# Altium schematic symbol library OpAmp比较器.SchLib: 515 symbols (part 1 of 3)
Pins are listed as number, name and electrical type; pins without a type are passive.

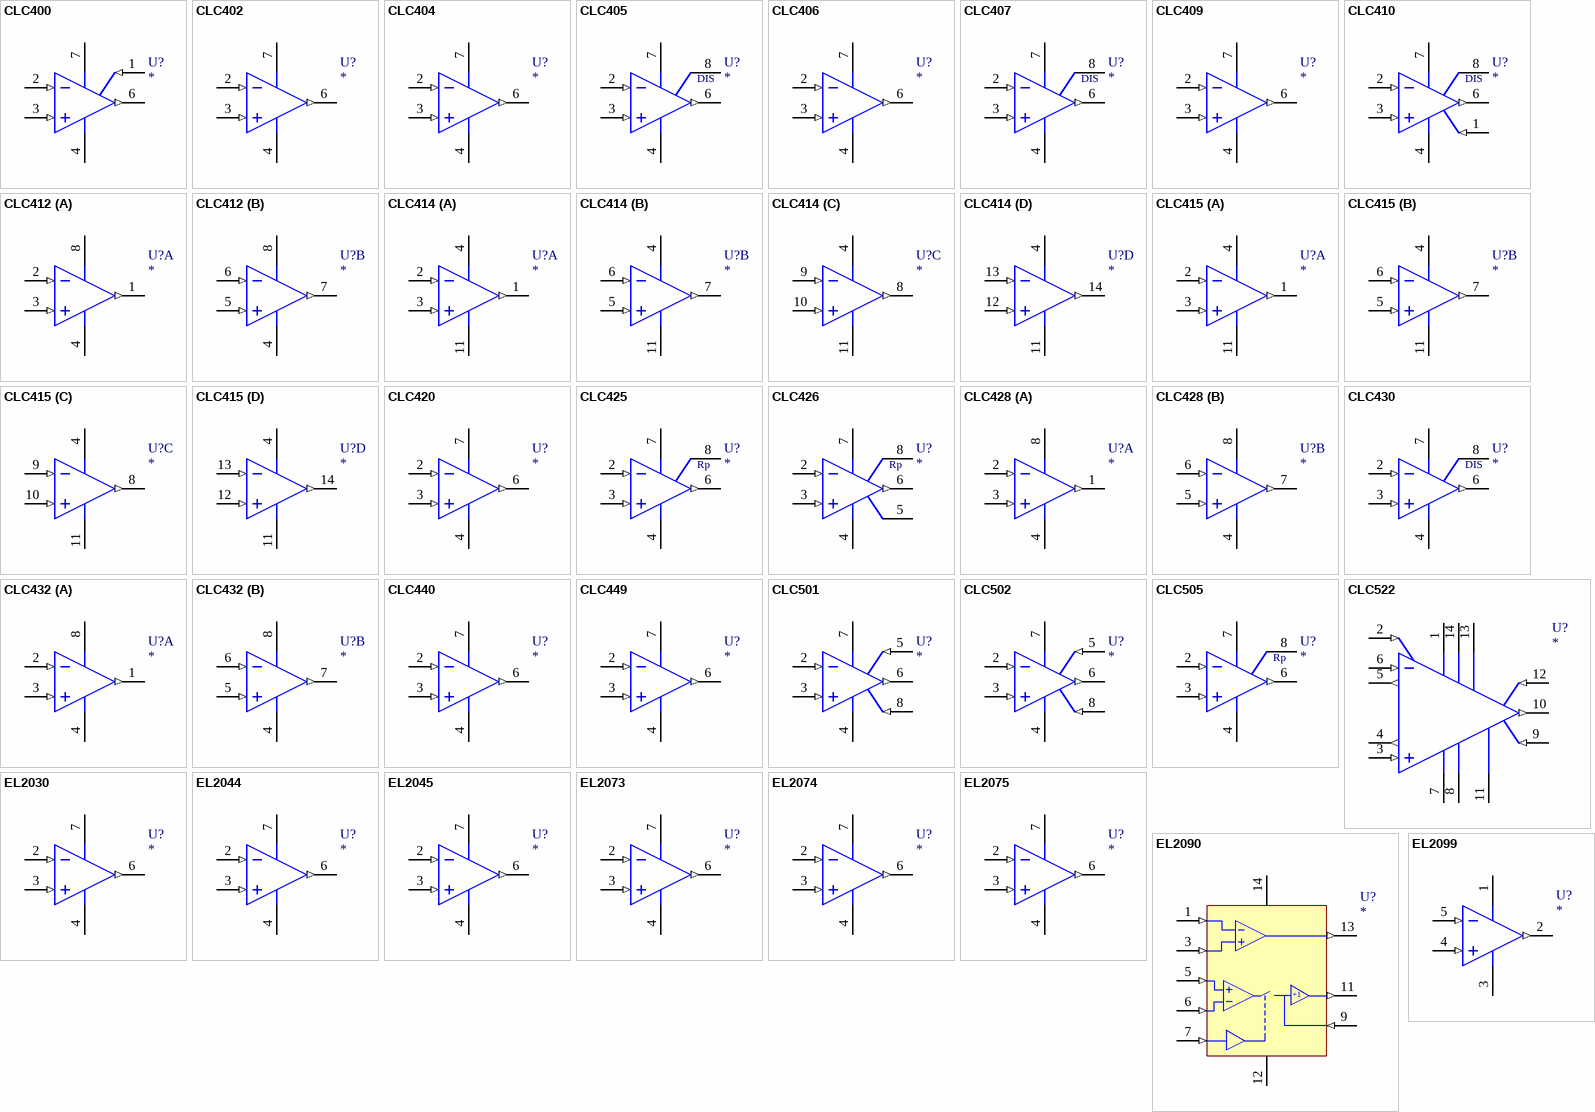
[diagram p0: symbols CLC400 to EL2099]

## CLC400
designator U?
Fast Settling, Wideband Low-Gain Monolithic Op Amp; Text Field6: Pins 5 and 8 are not connected; 技术支持，联系售后: 封装库来自淘宝卖家 ID：黄晶宝石; 唯一出售店铺网址: https://shop463601444.taobao.com
footprint DIP-8
simulation model CLC400 (SUBCKT)
pins: 1 OS ADJ (in), 2 IN- (in), 3 IN+ (in), 4 VEE (power), 6 OUT (out), 7 VCC (power)

## CLC402
designator U?
Low-Gain Op Amp with Fast 14-Bit Settling; Text Field6: Pins 1, 5, and 8 are not connected
footprint DIP-8
simulation model CLC402 (SUBCKT)
pins: 2 IN- (in), 3 IN+ (in), 4 VEE (power), 6 OUT (out), 7 VCC (power)

## CLC404
designator U?
Wideband, High-Slew Rate, Monolithic Op Amp; Text Field6: Pins 1, 5, and 8 are not connected
footprint DIP-8
simulation model CLC404 (SUBCKT)
pins: 2 IN- (in), 3 IN+ (in), 4 VEE (power), 6 OUT (out), 7 VCC (power)

## CLC405
designator U?
Low-Cost, Low Power, 110MHz Op Amp with Disable; Text Field6: Pins 1 and 5 are not connected
footprint DIP-8
simulation model CLC405 (SUBCKT)
pins: 2 IN- (in), 3 IN+ (in), 4 VEE (power), 6 OUT (out), 7 VCC (power), 8 ~{DIS}
text: DIS

## CLC406
designator U?
Wideband, Low Power Monolithic Op Amp; Text Field6: Pins 1, 5, and 8 are not connected
footprint DIP-8
simulation model CLC406 (SUBCKT)
pins: 2 IN- (in), 3 IN+ (in), 4 VEE (power), 6 OUT (out), 7 VCC (power)

## CLC407
designator U?
Low-Cost, Low-Power Programmable Gain Buffer with Disable; Text Field6: Pins 1 and 8 are not connected
footprint DIP-8
simulation model CLC407 (SUBCKT)
pins: 2 IN- (in), 3 IN+ (in), 4 VEE (power), 6 OUT (out), 7 VCC (power), 8 ~{DIS}
text: DIS

## CLC409
designator U?
Very Wideband, Low Distortion Monolithic Op Amp; Text Field6: Pins 1, 5, and 8 are not connected
footprint DIP-8
simulation model CLC409 (SUBCKT)
pins: 2 IN- (in), 3 IN+ (in), 4 VEE (power), 6 OUT (out), 7 VCC (power)

## CLC410
designator U?
Fast Settling, Video Op Amp with Disable; Text Field6: Pin 5 is not connected
footprint DIP-8
simulation model CLC410 (SUBCKT)
pins: 1 OS ADJ (in), 2 IN- (in), 3 IN+ (in), 4 VEE (power), 6 OUT (out), 7 VCC (power), 8 ~{DIS}
text: DIS

## CLC412
designator U?
Dual Wideband Video Op Amp
footprint DIP-8
simulation model CLC412 (SUBCKT)
part A pins: 1 OUT (out), 2 IN- (in), 3 IN+ (in), 4 VEE (power), 8 VCC (power)
part B pins: 4 VEE (power), 5 IN+ (in), 6 IN- (in), 7 OUT (out), 8 VCC (power)

## CLC414
designator U?
Quad, Low-Power Monolithic Op Amp
footprint DIP-14
simulation model CLC414 (SUBCKT)
part A pins: 1 OUT (out), 2 IN- (in), 3 IN+ (in), 4 VCC (power), 11 VEE (power)
part B pins: 4 VCC (power), 5 IN+ (in), 6 IN- (in), 7 OUT (out), 11 VEE (power)
part C pins: 4 VCC (power), 8 OUT (out), 9 IN- (in), 10 IN+ (in), 11 VEE (power)
part D pins: 4 VCC (power), 11 VEE (power), 12 IN+ (in), 13 IN- (in), 14 OUT (out)

## CLC415
designator U?
Quad, Wideband Monolithic Op Amp
footprint DIP-14
simulation model CLC415 (SUBCKT)
part A pins: 1 OUT (out), 2 IN- (in), 3 IN+ (in), 4 VCC (power), 11 VEE (power)
part B pins: 4 VCC (power), 5 IN+ (in), 6 IN- (in), 7 OUT (out), 11 VEE (power)
part C pins: 4 VCC (power), 8 OUT (out), 9 IN- (in), 10 IN+ (in), 11 VEE (power)
part D pins: 4 VCC (power), 11 VEE (power), 12 IN+ (in), 13 IN- (in), 14 OUT (out)

## CLC420
designator U?
High-Speed, Voltage Feedback Op Amp; Text Field6: Pins 1, 5 and 8 are not connected
footprint DIP-8
simulation model CLC420 (SUBCKT)
pins: 2 IN- (in), 3 IN+ (in), 4 VEE (power), 6 OUT (out), 7 VCC (power)

## CLC425
designator U?
Ultra Low Noise Wideband Op Amp; Text Field6: Pins 1 and 5 are not connected
footprint DIP-8
simulation model CLC425 (SUBCKT)
pins: 2 IN- (in), 3 IN+ (in), 4 VEE (power), 6 OUT (out), 7 VCC (power), 8 Rp

## CLC426
designator U?
Wideband, Low-Noise, Voltage Feedback Op Amp; Text Field6: Pin 1 is not connected
footprint DIP-8
simulation model CLC426 (SUBCKT)
pins: 2 IN- (in), 3 IN+ (in), 4 VEE (power), 5 COMP, 6 OUT (out), 7 VCC (power), 8 Rp

## CLC428
designator U?
Dual Wideband, Low-Noise, Voltage Feedback Op Amp
footprint DIP-8
simulation model CLC428 (SUBCKT)
part A pins: 1 OUT (out), 2 IN- (in), 3 IN+ (in), 4 VEE (power), 8 VCC (power)
part B pins: 4 VEE (power), 5 IN+ (in), 6 IN- (in), 7 OUT (out), 8 VCC (power)

## CLC430
designator U?
General Purpose 100MHz Op Amp with Disable; Text Field6: Pins 1 and 5 are not connected
footprint DIP-8
simulation model CLC430 (SUBCKT)
pins: 2 IN- (in), 3 IN+ (in), 4 VEE (power), 6 OUT (out), 7 VCC (power), 8 ~{DIS}
text: DIS

## CLC432
designator U?
Dual Wideband Monolithic Op Amp with Disable
footprint DIP-8
simulation model CLC432 (SUBCKT)
part A pins: 1 OUT (out), 2 IN- (in), 3 IN+ (in), 4 VEE (power), 8 VCC (power)
part B pins: 4 VEE (power), 5 IN+ (in), 6 IN- (in), 7 OUT (out), 8 VCC (power)

## CLC440
designator U?
High-Speed, Low-Power, Voltage Feedback Op Amp; Text Field6: Pins 1, 5, and 8 are not connected
footprint DIP-8
simulation model CLC440 (SUBCKT)
pins: 2 IN- (in), 3 IN+ (in), 4 VEE (power), 6 OUT (out), 7 VCC (power)

## CLC449
designator U?
1.2GHz Ultra-Wideband Monolithic Op Amp; Text Field6: Pins 1, 5, and 8 are not connected
footprint DIP-8
simulation model CLC449 (SUBCKT)
pins: 2 IN- (in), 3 IN+ (in), 4 VEE (power), 6 OUT (out), 7 VCC (power)

## CLC501
designator U?
High-Speed Output Clamping Op Amp; Text Field6: Pin 1 is not connected
footprint DIP-8
simulation model CLC501 (SUBCKT)
pins: 2 IN- (in), 3 IN+ (in), 4 VEE (power), 5 VL (in), 6 OUT (out), 7 VCC (power), 8 VH (in)

## CLC502
designator U?
Clamping, Low-Gain Op Amp with Fast 14-bit Settling; Text Field6: Pin 1 is not connected
footprint DIP-8
simulation model CLC502 (SUBCKT)
pins: 2 IN- (in), 3 IN+ (in), 4 VEE (power), 5 VL (in), 6 OUT (out), 7 VCC (power), 8 VH (in)

## CLC505
designator U?
High-Speed, Programmable-Supply Current, Monolithic Op Amp; Text Field6: Pins 1 and 5 are not connected
footprint DIP-8
simulation model CLC505 (SUBCKT)
pins: 2 IN- (in), 3 IN+ (in), 4 VEE (power), 6 OUT (out), 7 VCC (power), 8 Rp

## CLC522
designator U?
Wideband Variable-Gain Amplifier
footprint DIP-14
simulation model CLC522 (SUBCKT)
pins: 1 VCC (power), 2 VG (in), 3 IN+ (in), 4 RG+ (out), 5 RG- (out), 6 IN- (in), 7 VEE (power), 8 VEE (power), 9 VREF (in), 10 OUT (out), 11 GND (power), 12 I- (in), 13 VCC (power), 14 VCC (power)

## EL2030
designator U?
Low Power 60 MHz Unity Gain Stable Operational Amplifier
simulation model EL2030 (SUBCKT)
pins: 2 -IN (in), 3 +IN (in), 4 V- (power), 6 OUT (out), 7 V+ (power)

## EL2044
designator U?
Low Power 60 MHz Unity Gain Stable Operational Amplifier
simulation model EL2044 (SUBCKT)
pins: 2 -IN (in), 3 +IN (in), 4 V- (power), 6 OUT (out), 7 V+ (power)

## EL2045
designator U?
400 MHz GBWP Gain of 2  Stable Operational Amplifier
simulation model EL2045 (SUBCKT)
pins: 2 -IN (in), 3 +IN (in), 4 V- (power), 6 OUT (out), 7 V+ (power)

## EL2073
designator U?
Low Power 60 MHz Unity Gain Stable Operational Amplifier
simulation model EL2073 (SUBCKT)
pins: 2 -IN (in), 3 +IN (in), 4 V- (power), 6 OUT (out), 7 V+ (power)

## EL2074
designator U?
400 MHz GBWP Gain of 2  Stable Operational Amplifier
simulation model EL2074 (SUBCKT)
pins: 2 -IN (in), 3 +IN (in), 4 V- (power), 6 OUT (out), 7 V+ (power)

## EL2075
designator U?
2 GHz GBWP Gain of 10 Stable Operational Amplifier
simulation model EL2075 (SUBCKT)
pins: 2 -IN (in), 3 +IN (in), 4 V- (power), 6 OUT (out), 7 V+ (power)

## EL2090
designator U?
100 MHz DC-Restored Video Amplifier
simulation model EL2090 (SUBCKT)
pins: 1 VIDEO IN- (in), 3 VIDEO IN+ (in), 4 GND (power) hidden to GND, 5 S/H IN+ (in), 6 S/H IN- (in), 7 HOLD CNTR (in), 9 C HOLD (in), 11 S/H OUT (out), 12 V- (power), 13 VIDEO OUT (out), 14 V+ (power)
text: +1

## EL2099
designator U?
Video Distribution Amplifier
footprint DIP-8
simulation model EL2099 (SUBCKT)
pins: 1 V+ (power), 2 OUT (out), 3 V- (power), 4 V IN+ (in), 5 V IN- (in)

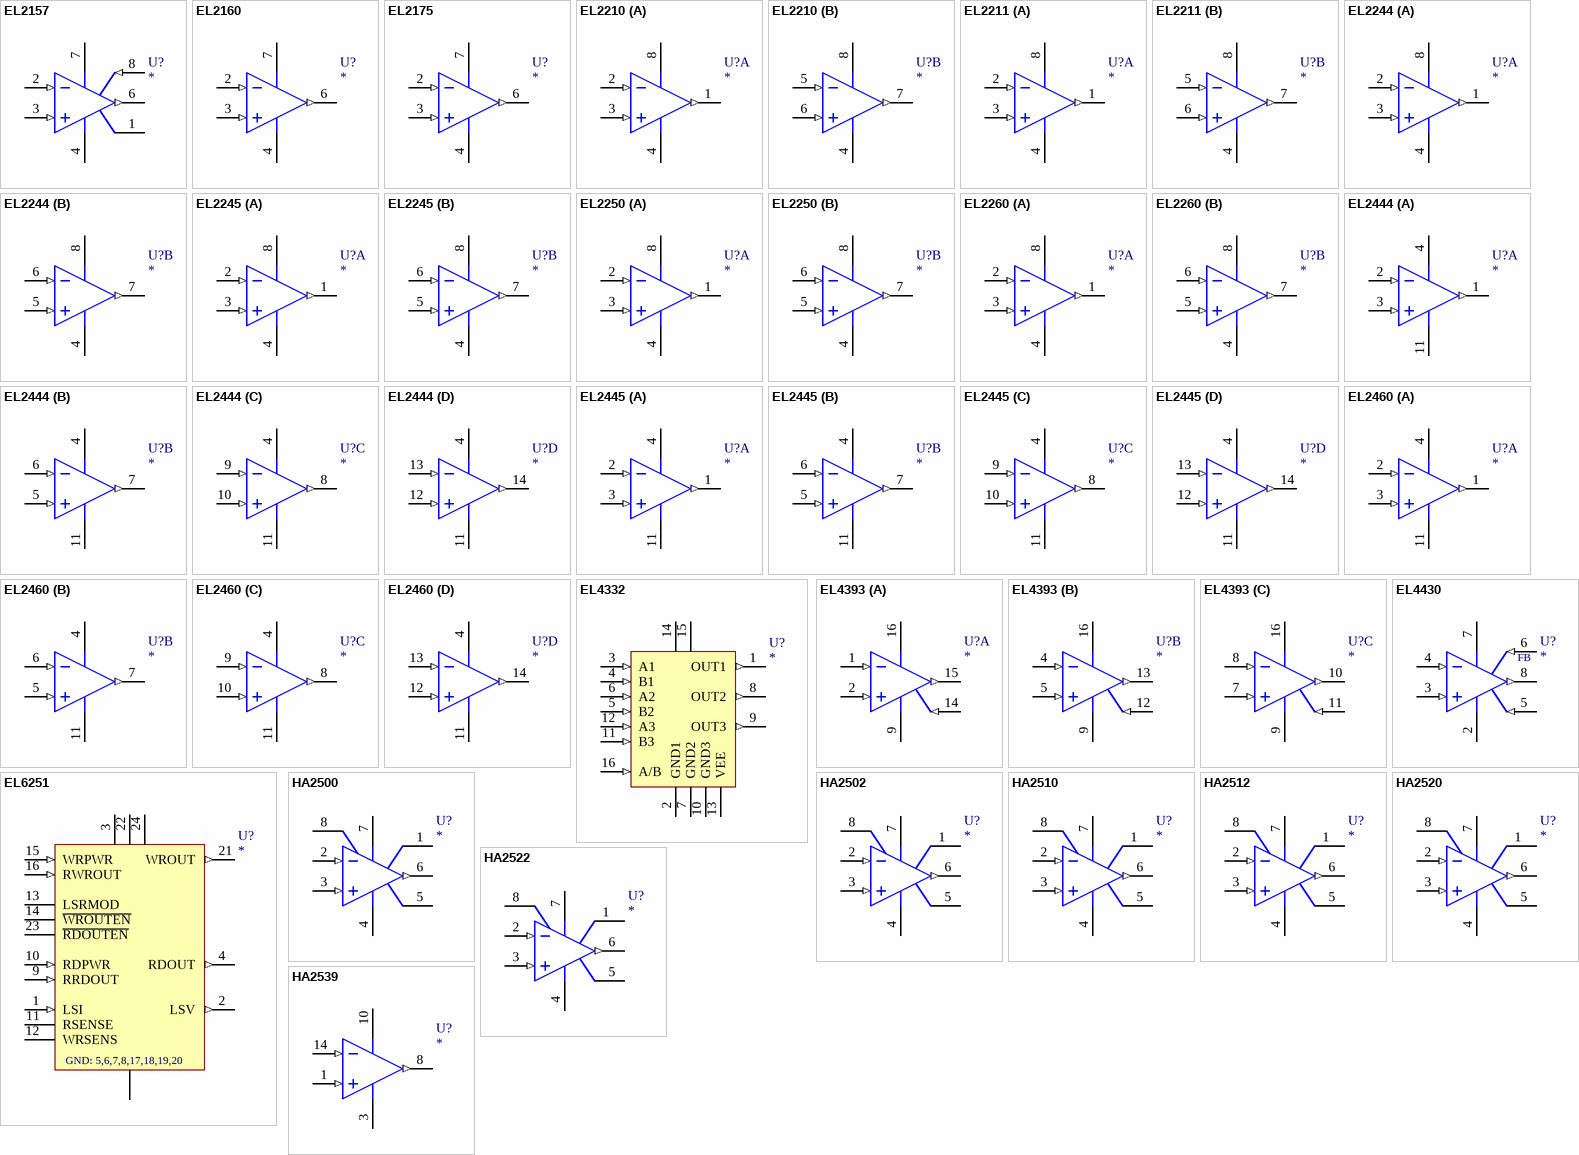
[diagram p1: symbols EL2157 to HA2539]

## EL2157
designator U?
125MHz Single Supply, Clamping Op Amp; Text Field6: Pin 5 is not connected
footprint DIP-8
simulation model EL2157 (SUBCKT)
pins: 1 CLM, 2 IN- (in), 3 IN+ (in), 4 GND (power), 6 OUT (out), 7 VCC (power), 8 EN (in)

## EL2160
designator U?
Low Power 60 MHz Unity Gain Stable Operational Amplifier
footprint DIP-8
simulation model EL2160 (SUBCKT)
pins: 2 -IN (in), 3 +IN (in), 4 V- (power), 6 OUT (out), 7 V+ (power)

## EL2175
designator U?
Low Power 60 MHz Unity Gain Stable Operational Amplifier
simulation model EL2175 (SUBCKT)
pins: 2 -IN (in), 3 +IN (in), 4 V- (power), 6 OUT (out), 7 V+ (power)

## EL2210
designator U?
Dual 60 MHz Unity Gain Stable Operational Amplifier
simulation model EL2210 (SUBCKT)
part A pins: 1 OUTA (out), 2 -INA (in), 3 +INA (in), 4 V- (power), 8 V+ (power)
part B pins: 4 V- (power), 5 +INB (in), 6 -INB (in), 7 OUTB (out), 8 V+ (power)

## EL2211
designator U?
Dual 60 MHz Unity Gain Stable Operational Amplifier
simulation model EL2211 (SUBCKT)
part A pins: 1 OUTA (out), 2 -INA (in), 3 +INA (in), 4 V- (power), 8 V+ (power)
part B pins: 4 V- (power), 5 +INB (in), 6 -INB (in), 7 OUTB (out), 8 V+ (power)

## EL2244
designator U?
Dual Fast Single Supply Unity Gain Stable Operational Amplifier
simulation model EL2244 (SUBCKT)
part A pins: 1 OUT1 (out), 2 -IN1 (in), 3 +IN1 (in), 4 V- (power), 8 V+ (power)
part B pins: 4 V- (power), 5 +IN2 (in), 6 -IN2 (in), 7 OUT2 (out), 8 V+ (power)

## EL2245
designator U?
Dual/Quad Low Power 100 MHz Gain of 2 Stable Operational Amplifier
simulation model EL2245 (SUBCKT)
part A pins: 1 OUT1 (out), 2 -IN1 (in), 3 +IN1 (in), 4 V- (power), 8 V+ (power)
part B pins: 4 V- (power), 5 +IN2 (in), 6 -IN2 (in), 7 OUT2 (out), 8 V+ (power)

## EL2250
designator U?
125MHz Single Supply Dual Op Amp
simulation model EL2250 (SUBCKT)
part A pins: 1 OUT (out), 2 IN- (in), 3 IN+ (in), 4 GND (power), 8 VCC (power)
part B pins: 4 GND (power), 5 IN+ (in), 6 IN- (in), 7 OUT (out), 8 VCC (power)

## EL2260
designator U?
Dual 60 MHz Unity Gain Stable Operational Amplifier
simulation model EL2260 (SUBCKT)
part A pins: 1 OUTA (out), 2 -INA (in), 3 +INA (in), 4 V- (power), 8 V+ (power)
part B pins: 4 V- (power), 5 +INB (in), 6 -INB (in), 7 OUTB (out), 8 V+ (power)

## EL2444
designator U?
Quad 60 MHz High Speed Operational Amplifier
simulation model EL2444 (SUBCKT)
part A pins: 1 OUT 1 (out), 2 IN- 1 (in), 3 IN+ 1 (in), 4 V+ (power), 11 V- (power)
part B pins: 4 V+ (power), 5 IN+ 2 (in), 6 IN- 2 (in), 7 OUT 2 (out), 11 V- (power)
part C pins: 4 V+ (power), 8 OUT 3 (out), 9 IN- 3 (in), 10 IN+ 3 (in), 11 V- (power)
part D pins: 4 V+ (power), 11 V- (power), 12 IN+ 4 (in), 13 IN- 4 (in), 14 OUT 4 (out)

## EL2445
designator U?
Quad 60 MHz High Speed Operational Amplifier
simulation model EL2445 (SUBCKT)
part A pins: 1 OUT 1 (out), 2 IN- 1 (in), 3 IN+ 1 (in), 4 V+ (power), 11 V- (power)
part B pins: 4 V+ (power), 5 IN+ 2 (in), 6 IN- 2 (in), 7 OUT 2 (out), 11 V- (power)
part C pins: 4 V+ (power), 8 OUT 3 (out), 9 IN- 3 (in), 10 IN+ 3 (in), 11 V- (power)
part D pins: 4 V+ (power), 11 V- (power), 12 IN+ 4 (in), 13 IN- 4 (in), 14 OUT 4 (out)

## EL2460
designator U?
Quad 60 MHz High Speed Operational Amplifier
simulation model EL2460 (SUBCKT)
part A pins: 1 OUT 1 (out), 2 IN- 1 (in), 3 IN+ 1 (in), 4 V+ (power), 11 V- (power)
part B pins: 4 V+ (power), 5 IN+ 2 (in), 6 IN- 2 (in), 7 OUT 2 (out), 11 V- (power)
part C pins: 4 V+ (power), 8 OUT 3 (out), 9 IN- 3 (in), 10 IN+ 3 (in), 11 V- (power)
part D pins: 4 V+ (power), 11 V- (power), 12 IN+ 4 (in), 13 IN- 4 (in), 14 OUT 4 (out)

## EL4332
designator U?
Triple 2:1 300 MHz Mux-Amp AV=2
simulation model EL4332 (SUBCKT)
pins: 1 OUT1 (out), 2 GND1 (power), 3 A1 (in), 4 B1 (in), 5 B2 (in), 6 A2 (in), 7 GND2 (power), 8 OUT2 (out), 9 OUT3 (out), 10 GND3 (power), 11 B3 (in), 12 A3 (in), 13 VEE (power), 14 VCC (power), 15 VCC (power), 16 A/B (in)

## EL4393
designator U?
Triple 80 MHz Video Amplifier with Disable
simulation model EL4393 (SUBCKT)
part A pins: 1 R IN- (in), 2 R IN+ (in), 3 D GND (power) hidden to D GND, 6 GND (power) hidden to GND, 9 V- (power), 14 ~{EN R} (in), 15 RO (out), 16 V+ (power)
part B pins: 4 G IN- (in), 5 G IN+ (in), 9 V- (power), 12 ~{EN G} (in), 13 GO (out), 16 V+ (power)
part C pins: 7 B IN+ (in), 8 B IN- (in), 9 V- (power), 10 BO (out), 11 ~{EN B} (in), 16 V+ (power)

## EL4430
designator U?
Video Instrumentation Amplifier
simulation model EL4430 (SUBCKT)
pins: 1 GND (power) hidden to GND, 2 V- (power), 3 V IN+ (in), 4 V IN- (in), 5 REF (in), 6 FB (in), 7 V+ (power), 8 V OUT (out)

## EL6251
designator U?
Laser Diode Power Amp W/Sense Amp
simulation model EL6251 (SUBCKT)
pins: 1 LSI (in), 2 LSV (out), 3 VCCRD (power), 4 RDOUT (out), 5 GND (power), 6 GND (power), 7 GND (power), 8 GND (power), 9 RRDOUT (in), 10 RDPWR (in), 11 RSENSE, 12 WRSENS, 13 LSRMOD, 14 ~{WROUTEN}, 15 WRPWR (in), 16 RWROUT (in), 17 GND (power), 18 GND (power), 19 GND (power), 20 GND (power), 21 WROUT (out), 22 VCCWR (power), 23 ~{RDOUTEN}, 24 VCC (power)
text: GND: 5,6,7,8,17,18,19,20

## HA2500
designator U?
Precision High slew Rate Operational Amplifiers
footprint DIP-8
simulation model HA2500 (SUBCKT)
pins: 1 BAL, 2 -IN (in), 3 +IN (in), 4 V- (power), 5 BAL, 6 OUT (out), 7 V+ (power), 8 COMP

## HA2502
designator U?
Precision High slew Rate Operational Amplifiers
footprint CAN_8
simulation model HA2502 (SUBCKT)
pins: 1 BAL, 2 IN- (in), 3 IN+ (in), 4 V- (power), 5 BAL, 6 OUT (out), 7 V+ (power), 8 COMP

## HA2510
designator U?
High slew Rate Operational Amplifiers
footprint DIP-8
simulation model HA2510 (SUBCKT)
pins: 1 BAL, 2 IN (in), 3 IN+ (in), 4 V- (power), 5 BAL, 6 OUT (out), 7 V+ (power), 8 COMP

## HA2512
designator U?
High slew Rate Operational Amplifiers
footprint CAN_8
simulation model HA2512 (SUBCKT)
pins: 1 BAL, 2 IN (in), 3 IN+ (in), 4 V- (power), 5 BAL, 6 OUT (out), 7 V+ (power), 8 COMP

## HA2520
designator U?
Uncompensated High slew Rate Operational Amplifiers
footprint DIP-8
simulation model HA2520 (SUBCKT)
pins: 1 BAL, 2 IN (in), 3 IN+ (in), 4 V- (power), 5 BAL, 6 OUT (out), 7 V+ (power), 8 COMP

## HA2522
designator U?
Uncompensated High slew Rate Operational Amplifiers
footprint CAN_8
simulation model HA2522 (SUBCKT)
pins: 1 BAL, 2 IN (in), 3 IN+ (in), 4 V- (power), 5 BAL, 6 OUT (out), 7 V+ (power), 8 COMP

## HA2539
designator U?
Very high Slew Rate Widespread Operational Amplifier
footprint DIP-14
simulation model HA2539 (SUBCKT)
pins: 1 +IN (in), 3 -V (power), 8 OUT (out), 10 +V (power), 14 -IN (in)

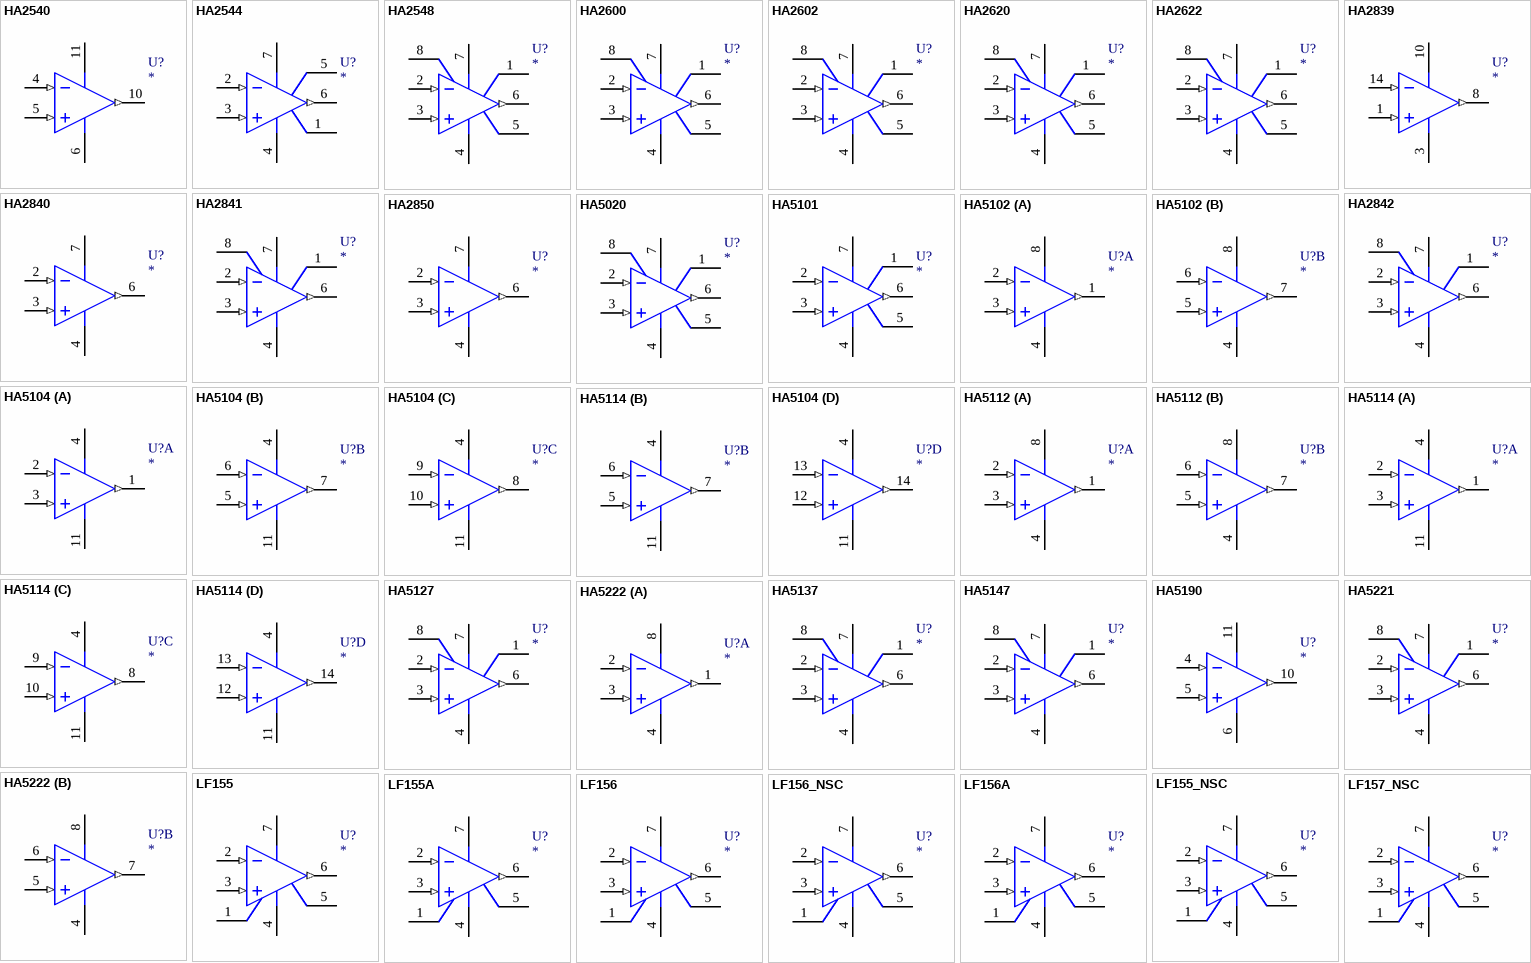
[diagram p2: symbols HA2540 to LF157_NSC]

## HA2540
designator U?
Wideband,Fast Settling Operational Amplifier
footprint DIP-14
simulation model HA2540 (SUBCKT)
pins: 4 -IN (in), 5 +IN (in), 6 -V (power), 10 OUT (out), 11 +V (power)

## HA2544
designator U?
Video Operational Amplifier
footprint DIP-8
simulation model HA2544 (SUBCKT)
pins: 1 BAL, 2 -IN (in), 3 +IN (in), 4 V- (power), 5 BAL, 6 OUT (out), 7 V+ (power)

## HA2548
designator U?
Precision,High slew Rate,Wideband Operational Amplifiers
footprint CAN_8
simulation model HA2548 (SUBCKT)
pins: 1 BAL, 2 -IN (in), 3 +IN (in), 4 V- (power), 5 BAL, 6 OUT (out), 7 V+ (power), 8 COMP

## HA2600
designator U?
Wideband,High Impedance Operational Amplifiers
footprint CAN_8
simulation model HA2600 (SUBCKT)
pins: 1 BAL, 2 -IN (in), 3 +IN (in), 4 V- (power), 5 BAL, 6 OUT (out), 7 V+ (power), 8 COMP

## HA2602
designator U?
Wideband,High Impedance Operational Amplifiers
footprint CAN_8
simulation model HA2602 (SUBCKT)
pins: 1 BAL, 2 -IN (in), 3 +IN (in), 4 V- (power), 5 BAL, 6 OUT (out), 7 V+ (power), 8 COMP

## HA2620
designator U?
Precision High slew Rate Operational Amplifiers
footprint DIP-8
simulation model HA2620 (SUBCKT)
pins: 1 BAL, 2 -IN (in), 3 +IN (in), 4 V- (power), 5 BAL, 6 OUT (out), 7 V+ (power), 8 COMP

## HA2622
designator U?
Precision High slew Rate Operational Amplifiers
simulation model HA2622 (SUBCKT)
pins: 1 BAL, 2 -IN (in), 3 +IN (in), 4 V- (power), 5 BAL, 6 OUT (out), 7 V+ (power), 8 COMP

## HA2839
designator U?
Very High Slew Rate Wideband Operational Amplifier
footprint DIP-14
simulation model HA2839 (SUBCKT)
pins: 1 +IN (in), 3 V- (power), 8 OUT (out), 10 V+ (power), 14 -IN (in)

## HA2840
designator U?
Very High Slew Rate Wideband Operational Amplifier
footprint DIP-14
simulation model HA2840 (SUBCKT)
pins: 2 -IN (in), 3 +IN (in), 4 V- (power), 6 OUT (out), 7 V+ (power)

## HA2841
designator U?
Wideband,Fast Settling,Unity Gain Stable,Video Operational Amplifier
footprint DIP-8
simulation model HA2841 (SUBCKT)
pins: 1 BAL, 2 -IN (in), 3 IN+ (in), 4 V- (power), 6 OUT (out), 7 V+ (power), 8 COMP

## HA2842
designator U?
Wideband,High Slew Rate,High Output Current,Video Operational Amplifier
footprint DIP-8
simulation model HA2842 (SUBCKT)
pins: 1 BAL, 2 -IN (in), 3 +IN (in), 4 V- (power), 6 OUT (out), 7 V+ (power), 8 COMP

## HA2850
designator U?
Low Power,High Slew Rate Wideband Operational Amplifier
simulation model HA2850 (SUBCKT)
pins: 2 -IN (in), 3 +IN (in), 4 V- (power), 6 OUT (out), 7 V+ (power)

## HA5020
designator U?
100MHZ Current Feedback Video Amplifier
footprint DIP-8
simulation model HA5020 (SUBCKT)
pins: 1 BAL, 2 -IN (in), 3 IN+ (in), 4 V- (power), 5 BAL, 6 OUT (out), 7 V+ (power), 8 ~{DISABLE}

## HA5101
designator U?
Low Noise,High Performance Operational Amplifiers
simulation model HA5101 (SUBCKT)
pins: 1 BAL, 2 -IN (in), 3 IN+ (in), 4 V- (power), 5 BAL, 6 OUT (out), 7 V+ (power)

## HA5102
designator U?
Low Noise,High Performance Operational Amplifier
footprint DIP-8
simulation model HA5102 (SUBCKT)
part A pins: 1 OUT1 (out), 2 -IN1 (in), 3 +IN1 (in), 4 V- (power), 8 V+ (power)
part B pins: 4 V- (power), 5 +IN2 (in), 6 -IN2 (in), 7 OUT2 (out), 8 V+ (power)

## HA5104
designator U?
Low Noise,High Performance Operational Amplifiers
footprint DIP-14
simulation model HA5104 (SUBCKT)
part A pins: 1 OUT1 (out), 2 -IN1 (in), 3 +IN1 (in), 4 V+ (power), 11 V- (power)
part B pins: 4 V+ (power), 5 IN2+ (in), 6 -IN2 (in), 7 OUT2 (out), 11 V- (power)
part C pins: 4 V+ (power), 8 OUT3 (out), 9 -IN3 (in), 10 +IN3 (in), 11 V- (power)
part D pins: 4 V+ (power), 11 V- (power), 12 +IN4 (in), 13 -IN4 (in), 14 OUT4 (out)

## HA5112
designator U?
Low Noise,High Performance Operational Amplifier
footprint DIP-8
simulation model HA5112 (SUBCKT)
part A pins: 1 OUT1 (out), 2 -IN1 (in), 3 +IN1 (in), 4 V- (power), 8 V+ (power)
part B pins: 4 V- (power), 5 +IN2 (in), 6 -IN2 (in), 7 OUT2 (out), 8 V+ (power)

## HA5114
designator U?
Low Noise,High Performance Operational Amplifiers
footprint DIP-14
simulation model HA5114 (SUBCKT)
part A pins: 1 OUT1 (out), 2 -IN1 (in), 3 +IN1 (in), 4 V+ (power), 11 V- (power)
part B pins: 4 V+ (power), 5 IN2+ (in), 6 -IN2 (in), 7 OUT2 (out), 11 V- (power)
part C pins: 4 V+ (power), 8 OUT3 (out), 9 -IN3 (in), 10 +IN3 (in), 11 V- (power)
part D pins: 4 V+ (power), 11 V- (power), 12 +IN4 (in), 13 -IN4 (in), 14 OUT4 (out)

## HA5127
designator U?
Ultra-Low Noise Precision Wideband Operational Amplifier
footprint DIP-8
simulation model HA5127 (SUBCKT)
pins: 1 BAL, 2 -IN (in), 3 +IN (in), 4 V- (power), 6 OUT (out), 7 V+ (power), 8 BAL

## HA5137
designator U?
Ultra-Low Noise Precision Wideband Operational Amplifier
footprint DIP-8
simulation model HA5137 (SUBCKT)
pins: 1 BAL, 2 -IN (in), 3 +IN (in), 4 V- (power), 6 OUT (out), 7 V+ (power), 8 BAL

## HA5147
designator U?
Ultra-Low Noise Precision High Slew Rate Wideband Operational Amplifier
footprint DIP-8
simulation model HA5147 (SUBCKT)
pins: 1 BAL, 2 -IN (in), 3 +IN (in), 4 V- (power), 6 OUT (out), 7 V+ (power), 8 BAL

## HA5190
designator U?
Wideband,Fast Settling Operational Amplifiers
footprint DIP-14
simulation model HA5190 (SUBCKT)
pins: 4 -IN (in), 5 +IN (in), 6 V- (power), 10 OUT (out), 11 +V (power)

## HA5221
designator U?
Low Noise,Wideband Precision Operational Amplifiers
footprint DIP-8
simulation model HA5221 (SUBCKT)
pins: 1 -BAL, 2 -IN (in), 3 IN+ (in), 4 V- (power), 6 OUT (out), 7 V+ (power), 8 +BAL

## HA5222
designator U?
Low Noise,Wideband Precision Operational Amplifiers
footprint DIP-8
simulation model HA5222 (SUBCKT)
part A pins: 1 OUT1 (out), 2 -IN1 (in), 3 +IN1 (in), 4 V- (power), 8 V+ (power)
part B pins: 4 V- (power), 5 +IN2 (in), 6 -IN2 (in), 7 OUT2 (out), 8 V+ (power)

## LF155
designator U?
Wide Bandwidth JFET Input Operational Amplifier
footprint CAN_8
simulation model LF155 (SUBCKT)
pins: 1 OS NULL-, 2 IN- (in), 3 IN+ (in), 4 VCC - (power), 5 OS NULL+, 6 OUT (out), 7 VCC+ (power)

## LF155_NSC
designator U?
Wide Bandwidth JFET Input Operational Amplifier
footprint CAN_8
simulation model LF155_NSC (SUBCKT)
pins: 1 OS NULL-, 2 IN- (in), 3 IN+ (in), 4 VCC - (power), 5 OS NULL+, 6 OUT (out), 7 VCC+ (power)

## LF155A
designator U?
Wide Bandwidth JFET Input Operational Amplifier
footprint CAN_8
simulation model LF155A (SUBCKT)
pins: 1 OS NULL-, 2 IN- (in), 3 IN+ (in), 4 VCC - (power), 5 OS NULL+, 6 OUT (out), 7 VCC+ (power)

## LF156
designator U?
Wide Bandwidth JFET Input Operational Amplifier
footprint CAN_8
simulation model LF156 (SUBCKT)
pins: 1 OS NULL-, 2 IN- (in), 3 IN+ (in), 4 VCC - (power), 5 OS NULL+, 6 OUT (out), 7 VCC+ (power)

## LF156_NSC
designator U?
Wide Bandwidth JFET Input Operational Amplifier
footprint CAN_8
simulation model LF156_NSC (SUBCKT)
pins: 1 OS NULL-, 2 IN- (in), 3 IN+ (in), 4 VCC - (power), 5 OS NULL+, 6 OUT (out), 7 VCC+ (power)

## LF156A
designator U?
Wide Bandwidth JFET Input Operational Amplifier
footprint CAN_8
simulation model LF156A (SUBCKT)
pins: 1 OS NULL-, 2 IN- (in), 3 IN+ (in), 4 VCC - (power), 5 OS NULL+, 6 OUT (out), 7 VCC+ (power)

## LF157_NSC
designator U?
Wide Bandwidth JFET Input Operational Amplifier
footprint CAN_8
simulation model LF157_NSC (SUBCKT)
pins: 1 OS NULL-, 2 IN- (in), 3 IN+ (in), 4 VCC - (power), 5 OS NULL+, 6 OUT (out), 7 VCC+ (power)

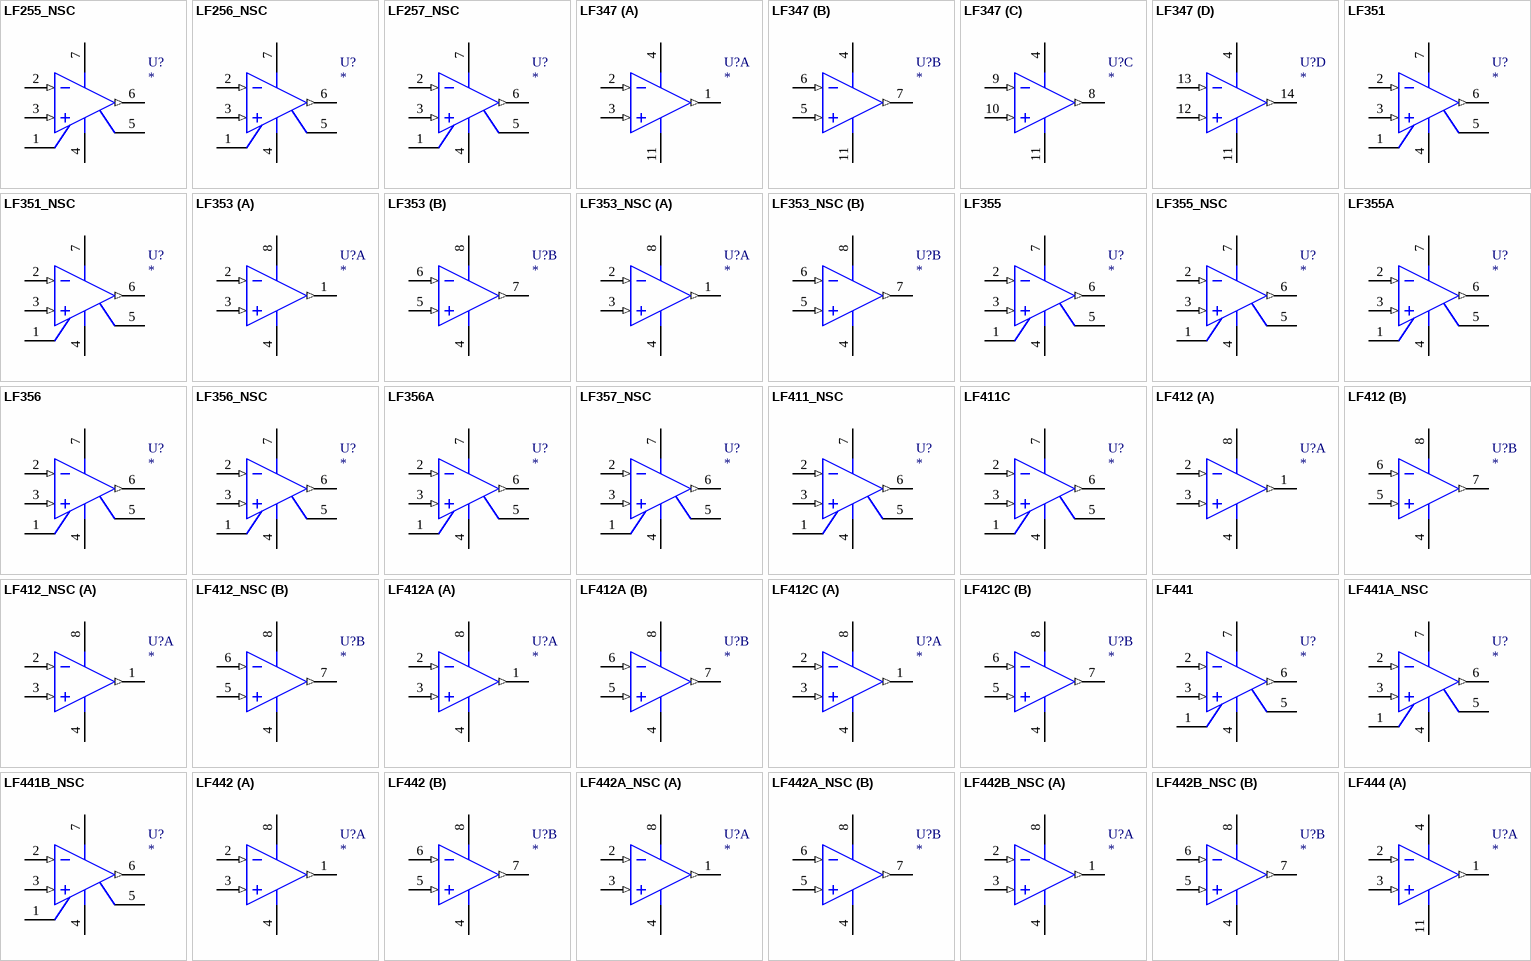
[diagram p3: symbols LF255_NSC to LF444]

## LF255_NSC
designator U?
Wide Bandwidth JFET Input Operational Amplifier
footprint DIP-8
simulation model LF255_NSC (SUBCKT)
pins: 1 OS NULL-, 2 IN- (in), 3 IN+ (in), 4 VCC - (power), 5 OS NULL+, 6 OUT (out), 7 VCC+ (power)

## LF256_NSC
designator U?
Wide Bandwidth JFET Input Operational Amplifier
footprint DIP-8
simulation model LF256_NSC (SUBCKT)
pins: 1 OS NULL-, 2 IN- (in), 3 IN+ (in), 4 VCC - (power), 5 OS NULL+, 6 OUT (out), 7 VCC+ (power)

## LF257_NSC
designator U?
Wide Bandwidth JFET Input Operational Amplifier
footprint DIP-8
simulation model LF257_NSC (SUBCKT)
pins: 1 OS NULL-, 2 IN- (in), 3 IN+ (in), 4 VCC - (power), 5 OS NULL+, 6 OUT (out), 7 VCC+ (power)

## LF347
designator U?
Low Power Quad Operational Amplifier
footprint DIP-14
simulation model LF347 (SUBCKT)
part A pins: 1 1 OUT (out), 2 1 IN- (in), 3 1 IN+ (in), 4 VCC (power), 11 VEE (power)
part B pins: 4 VCC (power), 5 2 IN+ (in), 6 2 IN- (in), 7 2 OUT (out), 11 VEE (power)
part C pins: 4 VCC (power), 8 3 OUT (out), 9 3 IN- (in), 10 3 IN+ (in), 11 VEE (power)
part D pins: 4 VCC (power), 11 VEE (power), 12 4 IN+ (in), 13 4 IN- (in), 14 4 OUT (out)

## LF351
designator U?
Wide Bandwidth JFET Input Operational Amplifier
footprint DIP-8
simulation model LF351 (SUBCKT)
pins: 1 OS NULL-, 2 IN- (in), 3 IN+ (in), 4 VCC - (power), 5 OS NULL+, 6 OUT (out), 7 VCC+ (power)

## LF351_NSC
designator U?
Wide Bandwidth JFET Input Operational Amplifier
footprint DIP-8
simulation model LF351_NSC (SUBCKT)
pins: 1 OS NULL-, 2 IN- (in), 3 IN+ (in), 4 VCC - (power), 5 OS NULL+, 6 OUT (out), 7 VCC+ (power)

## LF353
designator U?
Fast Settling Dual Operational Amplifier
footprint DIP-8
simulation model LF353 (SUBCKT)
part A pins: 1 OUT1 (out), 2 IN1- (in), 3 IN1+ (in), 4 V- (power), 8 V+ (power)
part B pins: 4 V- (power), 5 IN2+ (in), 6 IN2- (in), 7 OUT2 (out), 8 V+ (power)

## LF353_NSC
designator U?
Fast Settling Dual Operational Amplifier
footprint DIP-8
simulation model LF353_NSC (SUBCKT)
part A pins: 1 OUT1 (out), 2 IN1- (in), 3 IN1+ (in), 4 V- (power), 8 V+ (power)
part B pins: 4 V- (power), 5 IN2+ (in), 6 IN2- (in), 7 OUT2 (out), 8 V+ (power)

## LF355
designator U?
Wide Bandwidth JFET Input Operational Amplifier
footprint DIP-8
simulation model LF355 (SUBCKT)
pins: 1 OS NULL-, 2 IN- (in), 3 IN+ (in), 4 VCC - (power), 5 OS NULL+, 6 OUT (out), 7 VCC+ (power)

## LF355_NSC
designator U?
Wide Bandwidth JFET Input Operational Amplifier
footprint DIP-8
simulation model LF355_NSC (SUBCKT)
pins: 1 OS NULL-, 2 IN- (in), 3 IN+ (in), 4 VCC - (power), 5 OS NULL+, 6 OUT (out), 7 VCC+ (power)

## LF355A
designator U?
Wide Bandwidth JFET Input Operational Amplifier
footprint DIP-8
simulation model LF355A (SUBCKT)
pins: 1 OS NULL-, 2 IN- (in), 3 IN+ (in), 4 VCC - (power), 5 OS NULL+, 6 OUT (out), 7 VCC+ (power)

## LF356
designator U?
Wide Bandwidth JFET Input Operational Amplifier
footprint DIP-8
simulation model LF356 (SUBCKT)
pins: 1 OS NULL-, 2 IN- (in), 3 IN+ (in), 4 VCC - (power), 5 OS NULL+, 6 OUT (out), 7 VCC+ (power)

## LF356_NSC
designator U?
Wide Bandwidth JFET Input Operational Amplifier
footprint DIP-8
simulation model LF356_NSC (SUBCKT)
pins: 1 OS NULL-, 2 IN- (in), 3 IN+ (in), 4 VCC - (power), 5 OS NULL+, 6 OUT (out), 7 VCC+ (power)

## LF356A
designator U?
Wide Bandwidth JFET Input Operational Amplifier
footprint DIP-8
simulation model LF356A (SUBCKT)
pins: 1 OS NULL-, 2 IN- (in), 3 IN+ (in), 4 VCC - (power), 5 OS NULL+, 6 OUT (out), 7 VCC+ (power)

## LF357_NSC
designator U?
Wide Bandwidth JFET Input Operational Amplifier
footprint DIP-8
simulation model LF357_NSC (SUBCKT)
pins: 1 OS NULL-, 2 IN- (in), 3 IN+ (in), 4 VCC - (power), 5 OS NULL+, 6 OUT (out), 7 VCC+ (power)

## LF411_NSC
designator U?
Wide Bandwidth JFET Input Operational Amplifier
footprint DIP-8
simulation model LF411_NSC (SUBCKT)
pins: 1 OS NULL-, 2 IN- (in), 3 IN+ (in), 4 VCC - (power), 5 OS NULL+, 6 OUT (out), 7 VCC+ (power)

## LF411C
designator U?
Wide Bandwidth JFET Input Operational Amplifier
footprint DIP-8
simulation model LF411C (SUBCKT)
pins: 1 OS NULL-, 2 IN- (in), 3 IN+ (in), 4 VCC - (power), 5 OS NULL+, 6 OUT (out), 7 VCC+ (power)

## LF412
designator U?
Fast Settling Dual Operational Amplifier
footprint DIP-8
simulation model LF412 (SUBCKT)
part A pins: 1 OUT1 (out), 2 IN1- (in), 3 IN1+ (in), 4 V- (power), 8 V+ (power)
part B pins: 4 V- (power), 5 IN2+ (in), 6 IN2- (in), 7 OUT2 (out), 8 V+ (power)

## LF412_NSC
designator U?
Fast Settling Dual Operational Amplifier
footprint DIP-8
simulation model LF412_NSC (SUBCKT)
part A pins: 1 OUT1 (out), 2 IN1- (in), 3 IN1+ (in), 4 V- (power), 8 V+ (power)
part B pins: 4 V- (power), 5 IN2+ (in), 6 IN2- (in), 7 OUT2 (out), 8 V+ (power)

## LF412A
designator U?
Fast Settling Dual Operational Amplifier
footprint DIP-8
simulation model LF412A (SUBCKT)
part A pins: 1 OUT1 (out), 2 IN1- (in), 3 IN1+ (in), 4 V- (power), 8 V+ (power)
part B pins: 4 V- (power), 5 IN2+ (in), 6 IN2- (in), 7 OUT2 (out), 8 V+ (power)

## LF412C
designator U?
Fast Settling Dual Operational Amplifier
footprint DIP-8
simulation model LF412C (SUBCKT)
part A pins: 1 OUT1 (out), 2 IN1- (in), 3 IN1+ (in), 4 V- (power), 8 V+ (power)
part B pins: 4 V- (power), 5 IN2+ (in), 6 IN2- (in), 7 OUT2 (out), 8 V+ (power)

## LF441
designator U?
Wide Bandwidth JFET Input Operational Amplifier
footprint CAN_8
simulation model LF441 (SUBCKT)
pins: 1 OS NULL-, 2 IN- (in), 3 IN+ (in), 4 VCC - (power), 5 OS NULL+, 6 OUT (out), 7 VCC+ (power)

## LF441A_NSC
designator U?
Wide Bandwidth JFET Input Operational Amplifier
footprint CAN_8
simulation model LF441A_NSC (SUBCKT)
pins: 1 OS NULL-, 2 IN- (in), 3 IN+ (in), 4 VCC - (power), 5 OS NULL+, 6 OUT (out), 7 VCC+ (power)

## LF441B_NSC
designator U?
Wide Bandwidth JFET Input Operational Amplifier
simulation model LF441B_NSC (SUBCKT)
pins: 1 OS NULL-, 2 IN- (in), 3 IN+ (in), 4 VCC - (power), 5 OS NULL+, 6 OUT (out), 7 VCC+ (power)

## LF442
designator U?
Fast Settling Dual Operational Amplifier
footprint DIP-8
simulation model LF442 (SUBCKT)
part A pins: 1 OUT1 (out), 2 IN1- (in), 3 IN1+ (in), 4 V- (power), 8 V+ (power)
part B pins: 4 V- (power), 5 IN2+ (in), 6 IN2- (in), 7 OUT2 (out), 8 V+ (power)

## LF442A_NSC
designator U?
Fast Settling Dual Operational Amplifier
footprint DIP-8
simulation model LF442A_NSC (SUBCKT)
part A pins: 1 OUT1 (out), 2 IN1- (in), 3 IN1+ (in), 4 V- (power), 8 V+ (power)
part B pins: 4 V- (power), 5 IN2+ (in), 6 IN2- (in), 7 OUT2 (out), 8 V+ (power)

## LF442B_NSC
designator U?
Fast Settling Dual Operational Amplifier
simulation model LF442B_NSC (SUBCKT)
part A pins: 1 OUT1 (out), 2 IN1- (in), 3 IN1+ (in), 4 V- (power), 8 V+ (power)
part B pins: 4 V- (power), 5 IN2+ (in), 6 IN2- (in), 7 OUT2 (out), 8 V+ (power)

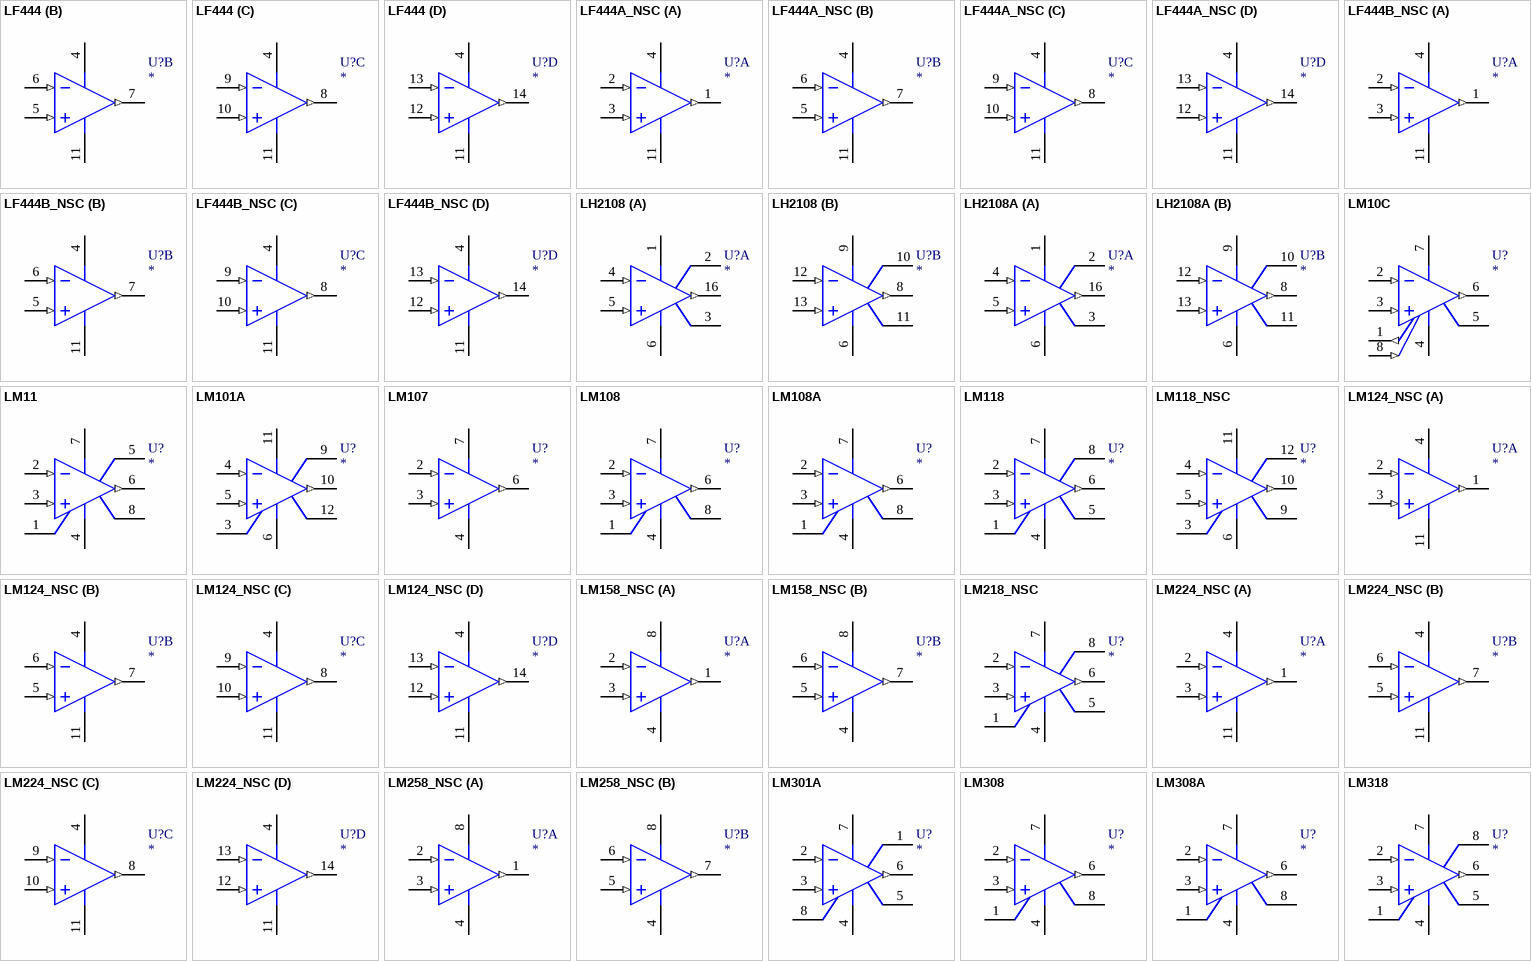
[diagram p4: symbols LF444 to LM318]

## LF444
designator U?
Low Power Quad Operational Amplifier
footprint DIP-14
simulation model LF444 (SUBCKT)
part A pins: 1 1 OUT (out), 2 1 IN- (in), 3 1 IN+ (in), 4 VCC (power), 11 VEE (power)
part B pins: 4 VCC (power), 5 2 IN+ (in), 6 2 IN- (in), 7 2 OUT (out), 11 VEE (power)
part C pins: 4 VCC (power), 8 3 OUT (out), 9 3 IN- (in), 10 3 IN+ (in), 11 VEE (power)
part D pins: 4 VCC (power), 11 VEE (power), 12 4 IN+ (in), 13 4 IN- (in), 14 4 OUT (out)

## LF444A_NSC
designator U?
Low Power Quad Operational Amplifier
footprint DIP-14
simulation model LF444A_NSC (SUBCKT)
part A pins: 1 1 OUT (out), 2 1 IN- (in), 3 1 IN+ (in), 4 VCC (power), 11 VEE (power)
part B pins: 4 VCC (power), 5 2 IN+ (in), 6 2 IN- (in), 7 2 OUT (out), 11 VEE (power)
part C pins: 4 VCC (power), 8 3 OUT (out), 9 3 IN- (in), 10 3 IN+ (in), 11 VEE (power)
part D pins: 4 VCC (power), 11 VEE (power), 12 4 IN+ (in), 13 4 IN- (in), 14 4 OUT (out)

## LF444B_NSC
designator U?
Low Power Quad Operational Amplifier
simulation model LF444B_NSC (SUBCKT)
part A pins: 1 1 OUT (out), 2 1 IN- (in), 3 1 IN+ (in), 4 VCC (power), 11 VEE (power)
part B pins: 4 VCC (power), 5 2 IN+ (in), 6 2 IN- (in), 7 2 OUT (out), 11 VEE (power)
part C pins: 4 VCC (power), 8 3 OUT (out), 9 3 IN- (in), 10 3 IN+ (in), 11 VEE (power)
part D pins: 4 VCC (power), 11 VEE (power), 12 4 IN+ (in), 13 4 IN- (in), 14 4 OUT (out)

## LH2108
designator U?
Dual Super Beta Operational Amplifier; Text Field6: Pins 7, 14, 15 are N.C.
footprint DIP-16
simulation model LH2108 (SUBCKT)
part A pins: 1 V+ (power), 2 OUT COMP A, 3 IN COMP A, 4 IN-A (in), 5 IN+A (in), 6 V- (power), 16 OUT A (out)
part B pins: 6 V- (power), 8 OUT B (out), 9 V+ (power), 10 OUT COMP B, 11 IN COMP B, 12 IN-B (in), 13 IN+B (in)

## LH2108A
designator U?
Dual Super Beta Operational Amplifier; Text Field6: Pins 7, 14, 15 are N.C.
footprint DIP-16
simulation model LH2108A (SUBCKT)
part A pins: 1 V+ (power), 2 OUT COMP A, 3 IN COMP A, 4 IN-A (in), 5 IN+A (in), 6 V- (power), 16 OUT A (out)
part B pins: 6 V- (power), 8 OUT B (out), 9 V+ (power), 10 OUT COMP B, 11 IN COMP B, 12 IN-B (in), 13 IN+B (in)

## LM10C
designator U?
Operational Amplifier and Voltage Reference
footprint DIP-8
simulation model LM10C (SUBCKT)
pins: 1 REF OUT 2 (out), 2 IN 1- (in), 3 IN 1+ (in), 4 VSS (power), 5 BAL, 6 OUT 1 (out), 7 VCC (power), 8 REF FB (in)

## LM11
designator U?
Precision Operational Amplifier
simulation model LM11 (SUBCKT)
pins: 1 BAL, 2 IN- (in), 3 IN+ (in), 4 VEE (power), 5 COMP, 6 OUT (out), 7 VCC (power), 8 BAL

## LM101A
designator U?
Operational Amplifier; Text Field6: Pins 1, 2, 7, 8, 13 and 14 are N.C.
footprint DIP-14
simulation model LM101A (SUBCKT)
pins: 3 BAL/COMP1, 4 IN- (in), 5 IN+ (in), 6 V- (power), 9 BAL, 10 OUT (out), 11 V+ (power), 12 COMP2

## LM107
designator U?
Operational Amplifier; Text Field6: Pins 1, 5 and 8 are N.C.
footprint DIP-8
simulation model LM107 (SUBCKT)
pins: 2 IN- (in), 3 IN+ (in), 4 V- (power), 6 OUT (out), 7 V+ (power)

## LM108
designator U?
Operational Amplifier; Text Field6: Pin 5 is N.C.
footprint DIP-8
simulation model LM108 (SUBCKT)
pins: 1 COMP1, 2 IN- (in), 3 IN+ (in), 4 V- (power), 6 OUT (out), 7 V+ (power), 8 COMP2

## LM108A
designator U?
Operational Amplifier; Text Field6: Pin 5 is N.C.
footprint CAN_8
simulation model LM108A (SUBCKT)
pins: 1 COMP1, 2 IN- (in), 3 IN+ (in), 4 V- (power), 6 OUT (out), 7 V+ (power), 8 COMP2

## LM118
designator U?
Operational Amplifier
footprint CAN_8
simulation model LM118 (SUBCKT)
pins: 1 NULL, 2 IN- (in), 3 IN+ (in), 4 V- (power), 5 NULL, 6 OUT (out), 7 V+ (power), 8 BW CTRL

## LM118_NSC
designator U?
Operational Amplifier; Text Field6: Pins 1, 2, 7, 8, 13 and 14 are N.C.
footprint DIP-14
simulation model LM118_NSC (SUBCKT)
pins: 3 COMP1/BAL, 4 IN- (in), 5 IN+ (in), 6 VCC- (power), 9 COMP3/BAL, 10 OUT (out), 11 VCC+ (power), 12 COMP2

## LM124_NSC
designator U?
Low Power Quad Operational Amplifier
footprint DIP-14
simulation model LM124_NSC (SUBCKT)
part A pins: 1 1 OUT (out), 2 1 IN- (in), 3 1 IN+ (in), 4 VCC (power), 11 VEE (power)
part B pins: 4 VCC (power), 5 2 IN+ (in), 6 2 IN- (in), 7 2 OUT (out), 11 VEE (power)
part C pins: 4 VCC (power), 8 3 OUT (out), 9 3 IN- (in), 10 3 IN+ (in), 11 VEE (power)
part D pins: 4 VCC (power), 11 VEE (power), 12 4 IN+ (in), 13 4 IN- (in), 14 4 OUT (out)

## LM158_NSC
designator U?
Fast Settling Dual Operational Amplifier
footprint DIP-8
simulation model LM158_NSC (SUBCKT)
part A pins: 1 OUT1 (out), 2 IN1- (in), 3 IN1+ (in), 4 V- (power), 8 V+ (power)
part B pins: 4 V- (power), 5 IN2+ (in), 6 IN2- (in), 7 OUT2 (out), 8 V+ (power)

## LM218_NSC
designator U?
Operational Amplifier
footprint CAN_8
simulation model LM218_NSC (SUBCKT)
pins: 1 NULL, 2 IN- (in), 3 IN+ (in), 4 V- (power), 5 NULL, 6 OUT (out), 7 V+ (power), 8 BW CTRL

## LM224_NSC
designator U?
Low Power Quad Operational Amplifier
footprint DIP-14
simulation model LM224_NSC (SUBCKT)
part A pins: 1 1 OUT (out), 2 1 IN- (in), 3 1 IN+ (in), 4 VCC (power), 11 VEE (power)
part B pins: 4 VCC (power), 5 2 IN+ (in), 6 2 IN- (in), 7 2 OUT (out), 11 VEE (power)
part C pins: 4 VCC (power), 8 3 OUT (out), 9 3 IN- (in), 10 3 IN+ (in), 11 VEE (power)
part D pins: 4 VCC (power), 11 VEE (power), 12 4 IN+ (in), 13 4 IN- (in), 14 4 OUT (out)

## LM258_NSC
designator U?
Fast Settling Dual Operational Amplifier
footprint DIP-8
simulation model LM258_NSC (SUBCKT)
part A pins: 1 OUT1 (out), 2 IN1- (in), 3 IN1+ (in), 4 V- (power), 8 V+ (power)
part B pins: 4 V- (power), 5 IN2+ (in), 6 IN2- (in), 7 OUT2 (out), 8 V+ (power)

## LM301A
designator U?
Operational Amplifier
footprint DIP-8
simulation model LM301A (SUBCKT)
pins: 1 N1/CMP, 2 IN- (in), 3 IN+ (in), 4 VSS (power), 5 N2/CMP, 6 OUT (out), 7 VCC (power), 8 FREQ COMP

## LM308
designator U?
Operational Amplifier; Text Field6: Pin 5 is N.C.
footprint DIP-8
simulation model LM308 (SUBCKT)
pins: 1 COMP1, 2 IN- (in), 3 IN+ (in), 4 V- (power), 6 OUT (out), 7 V+ (power), 8 COMP2

## LM308A
designator U?
Operational Amplifier; Text Field6: Pin 5 is N.C.
footprint DIP-8
simulation model LM308A (SUBCKT)
pins: 1 COMP1, 2 IN- (in), 3 IN+ (in), 4 V- (power), 6 OUT (out), 7 V+ (power), 8 COMP2

## LM318
designator U?
Operational Amplifier
footprint CAN_8
simulation model LM318 (SUBCKT)
pins: 1 NULL, 2 IN- (in), 3 IN+ (in), 4 V- (power), 5 NULL, 6 OUT (out), 7 V+ (power), 8 BW CTRL

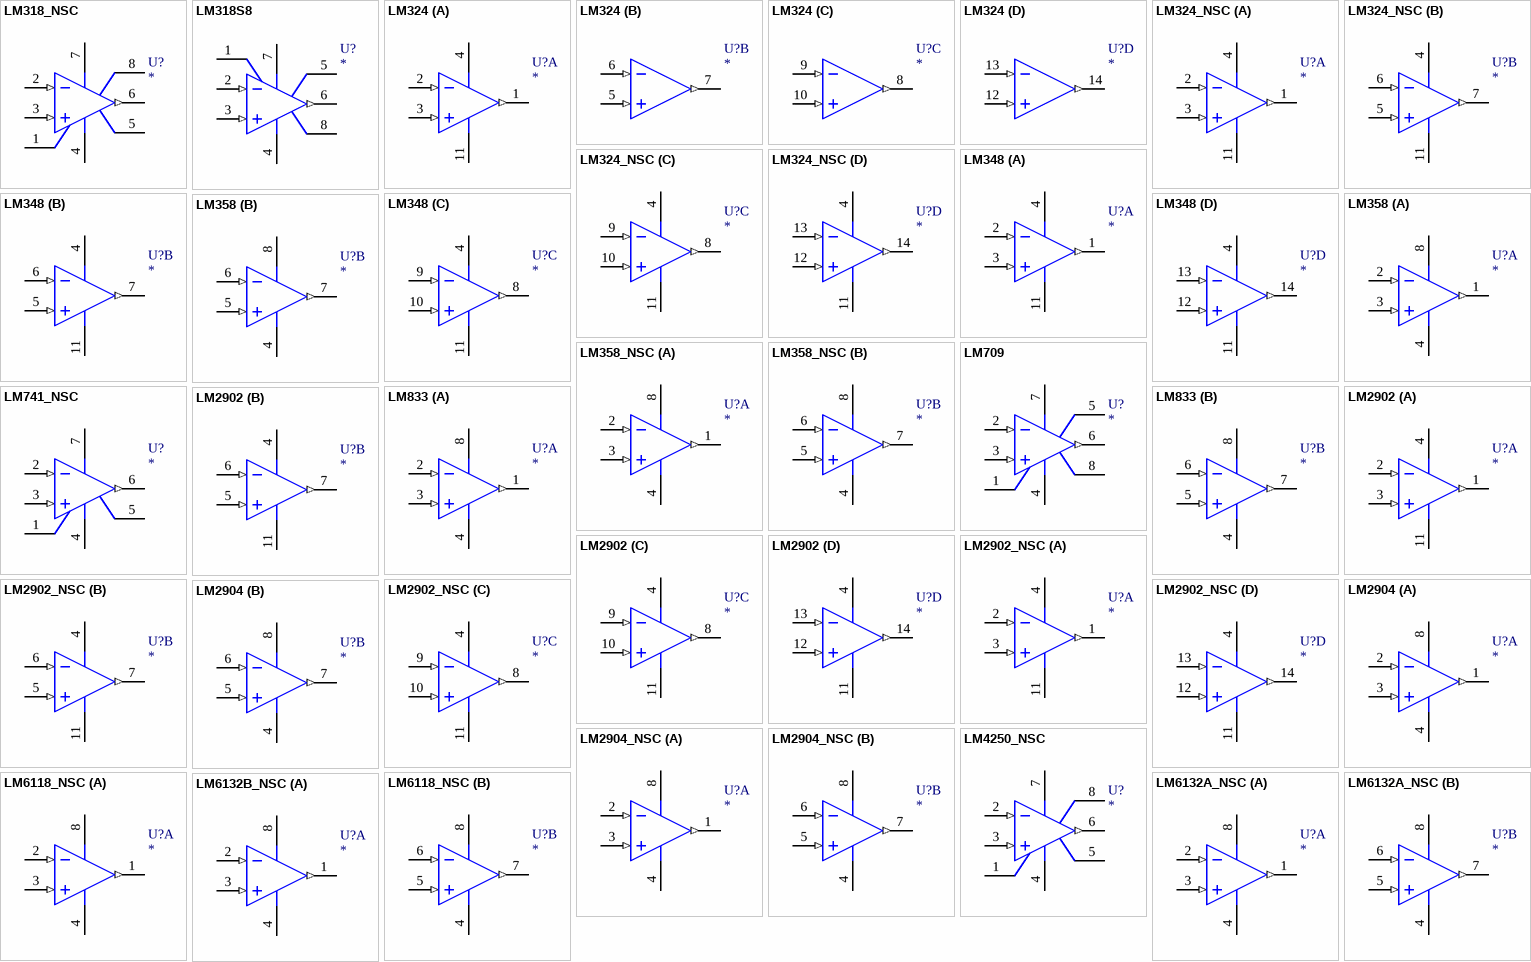
[diagram p5: symbols LM318_NSC to LM6132B_NSC]

## LM318_NSC
designator U?
Operational Amplifier
footprint DIP-8
simulation model LM318_NSC (SUBCKT)
pins: 1 NULL, 2 IN- (in), 3 IN+ (in), 4 V- (power), 5 NULL, 6 OUT (out), 7 V+ (power), 8 BW CTRL

## LM318S8
designator U?
High Speed Operational Amplifier
simulation model LM318S8 (SUBCKT)
pins: 1 COMP 1, 2 -IN (in), 3 +IN (in), 4 V- (power), 5 COMP 3, 6 OUT (out), 7 V+ (power), 8 COMP 2

## LM324
designator U?
Low Power Quad Operational Amplifier
footprint SOP14
simulation model LM324 (SUBCKT)
part A pins: 1 1 OUT (out), 2 1 IN- (in), 3 1 IN+ (in), 4 VCC (power), 11 VEE (power)
part B pins: 5 2 IN+ (in), 6 2 IN- (in), 7 2 OUT (out)
part C pins: 8 3 OUT (out), 9 3 IN- (in), 10 3 IN+ (in)
part D pins: 12 4 IN+ (in), 13 4 IN- (in), 14 4 OUT (out)

## LM324_NSC
designator U?
Low Power Quad Operational Amplifier
footprint DIP-14
simulation model LM324_NSC (SUBCKT)
part A pins: 1 1 OUT (out), 2 1 IN- (in), 3 1 IN+ (in), 4 VCC (power), 11 VEE (power)
part B pins: 4 VCC (power), 5 2 IN+ (in), 6 2 IN- (in), 7 2 OUT (out), 11 VEE (power)
part C pins: 4 VCC (power), 8 3 OUT (out), 9 3 IN- (in), 10 3 IN+ (in), 11 VEE (power)
part D pins: 4 VCC (power), 11 VEE (power), 12 4 IN+ (in), 13 4 IN- (in), 14 4 OUT (out)

## LM348
designator U?
Low Power Quad Operational Amplifier
footprint DIP-14
simulation model LM348 (SUBCKT)
part A pins: 1 1 OUT (out), 2 1 IN- (in), 3 1 IN+ (in), 4 VCC (power), 11 VEE (power)
part B pins: 4 VCC (power), 5 2 IN+ (in), 6 2 IN- (in), 7 2 OUT (out), 11 VEE (power)
part C pins: 4 VCC (power), 8 3 OUT (out), 9 3 IN- (in), 10 3 IN+ (in), 11 VEE (power)
part D pins: 4 VCC (power), 11 VEE (power), 12 4 IN+ (in), 13 4 IN- (in), 14 4 OUT (out)

## LM358
designator U?
Fast Settling Dual Operational Amplifier
footprint CAN_8
simulation model LM358 (SUBCKT)
part A pins: 1 OUT1 (out), 2 IN1- (in), 3 IN1+ (in), 4 V- (power), 8 V+ (power)
part B pins: 4 V- (power), 5 IN2+ (in), 6 IN2- (in), 7 OUT2 (out), 8 V+ (power)

## LM358_NSC
designator U?
Fast Settling Dual Operational Amplifier
footprint DIP-8
simulation model LM358_NSC (SUBCKT)
part A pins: 1 OUT1 (out), 2 IN1- (in), 3 IN1+ (in), 4 V- (power), 8 V+ (power)
part B pins: 4 V- (power), 5 IN2+ (in), 6 IN2- (in), 7 OUT2 (out), 8 V+ (power)

## LM709
designator U?
Operational Amplifier
footprint DIP-8
simulation model LM709 (SUBCKT)
pins: 1 COMP1, 2 IN- (in), 3 IN+ (in), 4 V- (power), 5 BIAS SET, 6 OUT (out), 7 V+ (power), 8 COMP2

## LM741_NSC
designator U?
Wide Bandwidth JFET Input Operational Amplifier
footprint DIP-8
simulation model LM741_NSC (SUBCKT)
pins: 1 OS NULL-, 2 IN- (in), 3 IN+ (in), 4 VCC - (power), 5 OS NULL+, 6 OUT (out), 7 VCC+ (power)

## LM833
designator U?
Fast Settling Dual Operational Amplifier
footprint DIP-8
simulation model LM833 (SUBCKT)
part A pins: 1 OUT1 (out), 2 IN1- (in), 3 IN1+ (in), 4 V- (power), 8 V+ (power)
part B pins: 4 V- (power), 5 IN2+ (in), 6 IN2- (in), 7 OUT2 (out), 8 V+ (power)

## LM2902
designator U?
Low Power Quad Operational Amplifier
footprint DIP-14
simulation model LM2902 (SUBCKT)
part A pins: 1 1 OUT (out), 2 1 IN- (in), 3 1 IN+ (in), 4 VCC (power), 11 VEE (power)
part B pins: 4 VCC (power), 5 2 IN+ (in), 6 2 IN- (in), 7 2 OUT (out), 11 VEE (power)
part C pins: 4 VCC (power), 8 3 OUT (out), 9 3 IN- (in), 10 3 IN+ (in), 11 VEE (power)
part D pins: 4 VCC (power), 11 VEE (power), 12 4 IN+ (in), 13 4 IN- (in), 14 4 OUT (out)

## LM2902_NSC
designator U?
Low Power Quad Operational Amplifier
footprint DIP-14
simulation model LM2902_NSC (SUBCKT)
part A pins: 1 1 OUT (out), 2 1 IN- (in), 3 1 IN+ (in), 4 VCC (power), 11 VEE (power)
part B pins: 4 VCC (power), 5 2 IN+ (in), 6 2 IN- (in), 7 2 OUT (out), 11 VEE (power)
part C pins: 4 VCC (power), 8 3 OUT (out), 9 3 IN- (in), 10 3 IN+ (in), 11 VEE (power)
part D pins: 4 VCC (power), 11 VEE (power), 12 4 IN+ (in), 13 4 IN- (in), 14 4 OUT (out)

## LM2904
designator U?
Dual Low Power Operational Amplifier
simulation model LM2904 (SUBCKT)
part A pins: 1 OUT A (out), 2 IN-A (in), 3 IN+A (in), 4 VEE (power), 8 VCC (power)
part B pins: 4 VEE (power), 5 IN+B (in), 6 IN-B (in), 7 OUT B (out), 8 VCC (power)

## LM2904_NSC
designator U?
Fast Settling Dual Operational Amplifier
footprint DIP-8
simulation model LM2904_NSC (SUBCKT)
part A pins: 1 OUT1 (out), 2 IN1- (in), 3 IN1+ (in), 4 V- (power), 8 V+ (power)
part B pins: 4 V- (power), 5 IN2+ (in), 6 IN2- (in), 7 OUT2 (out), 8 V+ (power)

## LM4250_NSC
designator U?
Programmable Operational Amplifier
footprint DIP-8
simulation model LM4250_NSC (SUBCKT)
pins: 1 OS NULL1, 2 IN- (in), 3 IN+ (in), 4 VCC- (power), 5 OS NULL2, 6 OUT (out), 7 VCC+ (power), 8 ISET

## LM6118_NSC
designator U?
Fast Settling Dual Operational Amplifier
footprint DIP-8
simulation model LM6118_NSC (SUBCKT)
part A pins: 1 OUT1 (out), 2 IN1- (in), 3 IN1+ (in), 4 V- (power), 8 V+ (power)
part B pins: 4 V- (power), 5 IN2+ (in), 6 IN2- (in), 7 OUT2 (out), 8 V+ (power)

## LM6132A_NSC
designator U?
Fast Settling Dual Operational Amplifier
footprint DIP-8
simulation model LM6132A_NSC (SUBCKT)
part A pins: 1 OUT1 (out), 2 IN1- (in), 3 IN1+ (in), 4 V- (power), 8 V+ (power)
part B pins: 4 V- (power), 5 IN2+ (in), 6 IN2- (in), 7 OUT2 (out), 8 V+ (power)

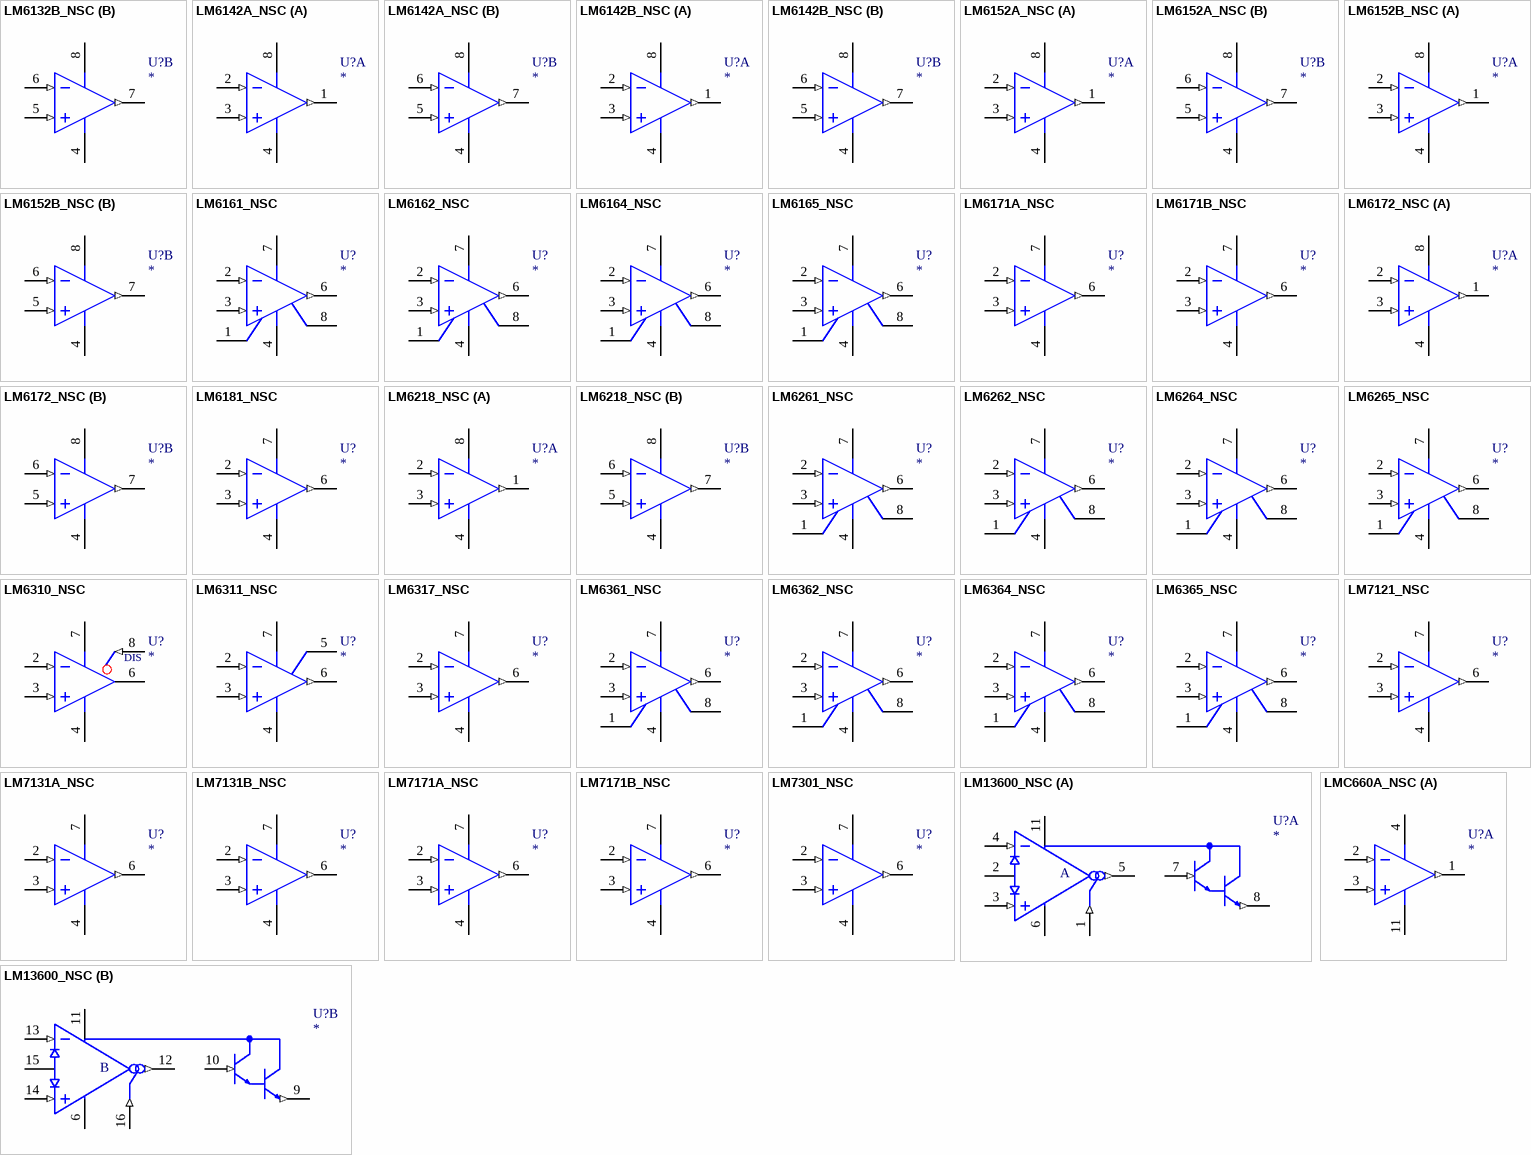
[diagram p6: symbols LM6132B_NSC to LMC660A_NSC]

## LM6132B_NSC
designator U?
Fast Settling Dual Operational Amplifier
footprint DIP-8
simulation model LM6132B_NSC (SUBCKT)
part A pins: 1 OUT1 (out), 2 IN1- (in), 3 IN1+ (in), 4 V- (power), 8 V+ (power)
part B pins: 4 V- (power), 5 IN2+ (in), 6 IN2- (in), 7 OUT2 (out), 8 V+ (power)

## LM6142A_NSC
designator U?
Fast Settling Dual Operational Amplifier
footprint DIP-8
simulation model LM6142A_NSC (SUBCKT)
part A pins: 1 OUT1 (out), 2 IN1- (in), 3 IN1+ (in), 4 V- (power), 8 V+ (power)
part B pins: 4 V- (power), 5 IN2+ (in), 6 IN2- (in), 7 OUT2 (out), 8 V+ (power)

## LM6142B_NSC
designator U?
Fast Settling Dual Operational Amplifier
footprint DIP-8
simulation model LM6142B_NSC (SUBCKT)
part A pins: 1 OUT1 (out), 2 IN1- (in), 3 IN1+ (in), 4 V- (power), 8 V+ (power)
part B pins: 4 V- (power), 5 IN2+ (in), 6 IN2- (in), 7 OUT2 (out), 8 V+ (power)

## LM6152A_NSC
designator U?
High Speed/Low Power 17 MHz Rail-to-Rail, Input-Output Operational Amplifier
footprint DIP-8
simulation model LM6152A_NSC (SUBCKT)
part A pins: 1 OUTA (out), 2 IN-A (in), 3 IN+A (in), 4 V- (power), 8 V+ (power)
part B pins: 4 V- (power), 5 IN+B (in), 6 IN-B (in), 7 OUTB (out), 8 V+ (power)

## LM6152B_NSC
designator U?
High Speed/Low Power 17 MHz Rail-to-Rail, Input-Output Operational Amplifier
footprint DIP-8
simulation model LM6152B_NSC (SUBCKT)
part A pins: 1 OUTA (out), 2 IN-A (in), 3 IN+A (in), 4 V- (power), 8 V+ (power)
part B pins: 4 V- (power), 5 IN+B (in), 6 IN-B (in), 7 OUTB (out), 8 V+ (power)

## LM6161_NSC
designator U?
High Speed Operational Amplifier; Text Field6: Pin 5 is N.C.
footprint DIP-8
simulation model LM6161_NSC (SUBCKT)
pins: 1 NULL IN, 2 IN- (in), 3 IN+ (in), 4 VS- (power), 6 OUT (out), 7 VS+ (power), 8 NULL IN

## LM6162_NSC
designator U?
High Speed Operational Amplifier; Text Field6: Pin 5 is N.C.
footprint DIP-8
simulation model LM6162_NSC (SUBCKT)
pins: 1 VOS TRIM, 2 IN- (in), 3 IN+ (in), 4 VS- (power), 6 OUT (out), 7 VS+ (power), 8 VOS TRIM

## LM6164_NSC
designator U?
High Speed Operational Amplifier; Text Field6: Pin 5 is N.C.
footprint DIP-8
simulation model LM6164_NSC (SUBCKT)
pins: 1 BAL, 2 IN- (in), 3 IN+ (in), 4 VS- (power), 6 OUT (out), 7 VS+ (power), 8 BAL

## LM6165_NSC
designator U?
High Speed Operational Amplifier; Text Field6: Pin 5 is N.C.
footprint DIP-8
simulation model LM6165_NSC (SUBCKT)
pins: 1 VOS ADJ, 2 IN- (in), 3 IN+ (in), 4 V- (power), 6 VOUT (out), 7 V+ (power), 8 VOS ADJ

## LM6171A_NSC
designator U?
Precision CMOS Single Micropower Operational Amplifier; Text Field6: Pins 1, 5 and 8 are N.C.
footprint DIP-8
simulation model LM6171A_NSC (SUBCKT)
pins: 2 IN- (in), 3 IN+ (in), 4 -VS (power), 6 OUT (out), 7 +VS (power)

## LM6171B_NSC
designator U?
Precision CMOS Single Micropower Operational Amplifier; Text Field6: Pins 1, 5 and 8 are N.C.
footprint DIP-8
simulation model LM6171B_NSC (SUBCKT)
pins: 2 IN- (in), 3 IN+ (in), 4 -VS (power), 6 OUT (out), 7 +VS (power)

## LM6172_NSC
designator U?
High Speed/Low Power 17 MHz Rail-to-Rail, Input-Output Operational Amplifier
footprint DIP-8
simulation model LM6172_NSC (SUBCKT)
part A pins: 1 OUTA (out), 2 IN-A (in), 3 IN+A (in), 4 V- (power), 8 V+ (power)
part B pins: 4 V- (power), 5 IN+B (in), 6 IN-B (in), 7 OUTB (out), 8 V+ (power)

## LM6181_NSC
designator U?
Operational Amplifier; Text Field6: Pins 1, 5 and 8 are N.C.
footprint DIP-8
simulation model LM6181_NSC (SUBCKT)
pins: 2 IN- (in), 3 IN+ (in), 4 V- (power), 6 OUT (out), 7 V+ (power)

## LM6218_NSC
designator U?
Fast Settling Dual Operational Amplifier
footprint DIP-8
simulation model LM6218_NSC (SUBCKT)
part A pins: 1 OUT1 (out), 2 IN1- (in), 3 IN1+ (in), 4 V- (power), 8 V+ (power)
part B pins: 4 V- (power), 5 IN2+ (in), 6 IN2- (in), 7 OUT2 (out), 8 V+ (power)

## LM6261_NSC
designator U?
High Speed Operational Amplifier; Text Field6: Pin 5 is N.C.
footprint DIP-8
simulation model LM6261_NSC (SUBCKT)
pins: 1 NULL IN, 2 IN- (in), 3 IN+ (in), 4 VS- (power), 6 OUT (out), 7 VS+ (power), 8 NULL IN

## LM6262_NSC
designator U?
High Speed Operational Amplifier; Text Field6: Pin 5 is N.C.
footprint DIP-8
simulation model LM6262_NSC (SUBCKT)
pins: 1 VOS TRIM, 2 IN- (in), 3 IN+ (in), 4 VS- (power), 6 OUT (out), 7 VS+ (power), 8 VOS TRIM

## LM6264_NSC
designator U?
High Speed Operational Amplifier; Text Field6: Pin 5 is N.C.
footprint DIP-8
simulation model LM6264_NSC (SUBCKT)
pins: 1 BAL, 2 IN- (in), 3 IN+ (in), 4 VS- (power), 6 OUT (out), 7 VS+ (power), 8 BAL

## LM6265_NSC
designator U?
High Speed Operational Amplifier; Text Field6: Pin 5 is N.C.
footprint DIP-8
simulation model LM6265_NSC (SUBCKT)
pins: 1 VOS ADJ, 2 IN- (in), 3 IN+ (in), 4 V- (power), 6 VOUT (out), 7 V+ (power), 8 VOS ADJ

## LM6310_NSC
designator U?
High Speed Low Power Operational Amplifier with TRI-STATE Output; Text Field6: Pins 1 and 5 are N.C.
footprint DIP-8
simulation model LM6310_NSC (SUBCKT)
pins: 2 IN- (in), 3 IN+ (in), 4 VCC- (power), 6 OUT (hiz), 7 VCC+ (power), 8 DISABLE (in)
text: DIS

## LM6311_NSC
designator U?
Low Noise, High Speed, Voltage Feedback Operational Amplifier; Text Field6: Pins 1 and 8 are N.C.
footprint DIP-8
simulation model LM6311_NSC (SUBCKT)
pins: 2 IN- (in), 3 IN+ (in), 4 V- (power), 5 COMP, 6 OUT (out), 7 V+ (power)

## LM6317_NSC
designator U?
Tiny High Speed Single Supply Operational Amplifier; Text Field6: Pins 1, 5 and 8 are N.C.
footprint DIP-8
simulation model LM6317_NSC (SUBCKT)
pins: 2 IN- (in), 3 IN+ (in), 4 VCC- (power), 6 OUT (out), 7 VCC+ (power)

## LM6361_NSC
designator U?
High Speed Operational Amplifier; Text Field6: Pin 5 is N.C.
footprint DIP-8
simulation model LM6361_NSC (SUBCKT)
pins: 1 NULL IN, 2 IN- (in), 3 IN+ (in), 4 VS- (power), 6 OUT (out), 7 VS+ (power), 8 NULL IN

## LM6362_NSC
designator U?
High Speed Operational Amplifier; Text Field6: Pin 5 is N.C.
footprint DIP-8
simulation model LM6362_NSC (SUBCKT)
pins: 1 VOS TRIM, 2 IN- (in), 3 IN+ (in), 4 VS- (power), 6 OUT (out), 7 VS+ (power), 8 VOS TRIM

## LM6364_NSC
designator U?
High Speed Operational Amplifier; Text Field6: Pin 5 is N.C.
footprint DIP-8
simulation model LM6364_NSC (SUBCKT)
pins: 1 BAL, 2 IN- (in), 3 IN+ (in), 4 VS- (power), 6 OUT (out), 7 VS+ (power), 8 BAL

## LM6365_NSC
designator U?
High Speed Operational Amplifier; Text Field6: Pin 5 is N.C.
footprint DIP-8
simulation model LM6365_NSC (SUBCKT)
pins: 1 VOS ADJ, 2 IN- (in), 3 IN+ (in), 4 V- (power), 6 VOUT (out), 7 V+ (power), 8 VOS ADJ

## LM7121_NSC
designator U?
Tiny High Speed Single Supply Operational Amplifier; Text Field6: Pins 1, 5 and 8 are N.C.
footprint DIP-8
simulation model LM7121_NSC (SUBCKT)
pins: 2 IN- (in), 3 IN+ (in), 4 VCC- (power), 6 OUT (out), 7 VCC+ (power)

## LM7131A_NSC
designator U?
Tiny High Speed Single Supply Operational Amplifier; Text Field6: Pins 1, 5 and 8 are N.C.
footprint DIP-8
simulation model LM7131A_NSC (SUBCKT)
pins: 2 IN- (in), 3 IN+ (in), 4 VCC- (power), 6 OUT (out), 7 VCC+ (power)

## LM7131B_NSC
designator U?
Tiny High Speed Single Supply Operational Amplifier; Text Field6: Pins 1, 5 and 8 are N.C.
footprint DIP-8
simulation model LM7131B_NSC (SUBCKT)
pins: 2 IN- (in), 3 IN+ (in), 4 VCC- (power), 6 OUT (out), 7 VCC+ (power)

## LM7171A_NSC
designator U?
Precision CMOS Single Micropower Operational Amplifier; Text Field6: Pins 1, 5 and 8 are N.C.
footprint DIP-8
simulation model LM7171A_NSC (SUBCKT)
pins: 2 IN- (in), 3 IN+ (in), 4 -VS (power), 6 OUT (out), 7 +VS (power)

## LM7171B_NSC
designator U?
Precision CMOS Single Micropower Operational Amplifier; Text Field6: Pins 1, 5 and 8 are N.C.
footprint DIP-8
simulation model LM7171B_NSC (SUBCKT)
pins: 2 IN- (in), 3 IN+ (in), 4 -VS (power), 6 OUT (out), 7 +VS (power)

## LM7301_NSC
designator U?
Low Power, 4 MHz GBW, Rail-to-Rail Input-Output Operational Amplifier; Text Field6: Pins 1, 5 and 8 are not connected
simulation model LM7301_NSC (SUBCKT)
pins: 2 IN- (in), 3 IN+ (in), 4 VEE (power), 6 OUT (out), 7 VCC (power)

## LM13600_NSC
designator U?
Dual Operational Transconductance Amplifier with Linearizing Diodes and Buffers
footprint DIP-16
simulation model LM13600_NSC (SUBCKT)
part A pins: 1 BIAS INA (in), 2 DIOD BIASA, 3 IN+A (in), 4 IN-A (in), 5 OUTA (out), 6 V- (power), 7 BUFF INA (in), 8 BUFF OUTA (out), 11 V+ (power)
part B pins: 6 V- (power), 9 BUFF OUTB (out), 10 BUFF INB (in), 11 V+ (power), 12 OUTB (out), 13 IN-B (in), 14 IN+B (in), 15 DIOD BIASB, 16 BIAS INB (in)
part A text: A
part B text: B

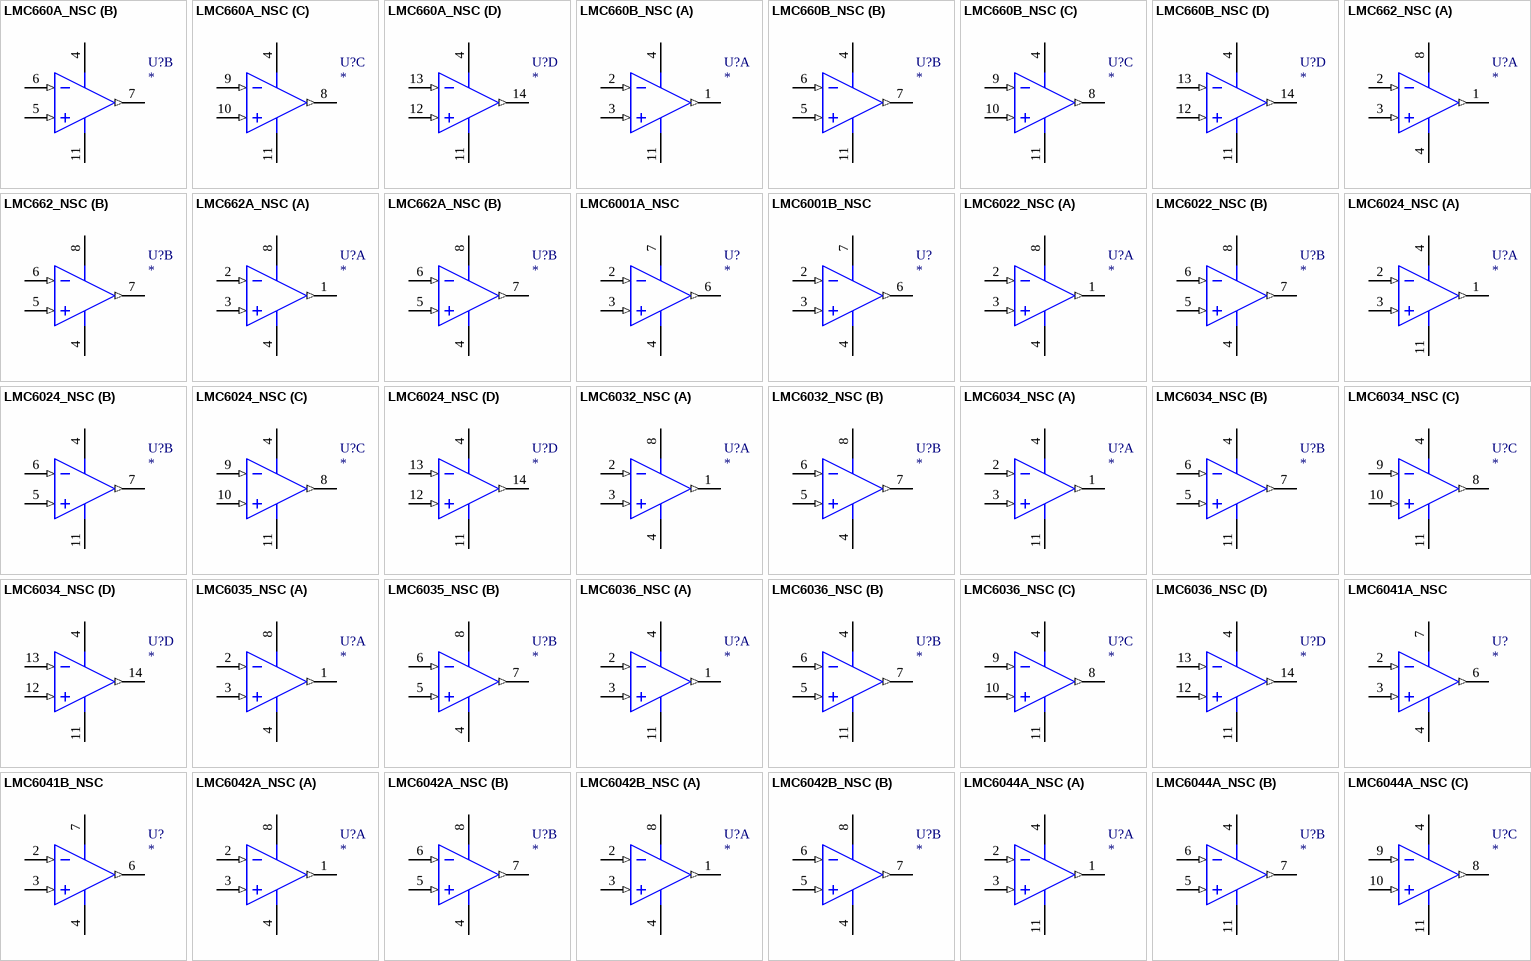
[diagram p7: symbols LMC660A_NSC to LMC6044A_NSC]

## LMC660A_NSC
designator U?
Low Power Quad Operational Amplifier
footprint DIP-14
simulation model LMC660A_NSC (SUBCKT)
part A pins: 1 1 OUT (out), 2 1 IN- (in), 3 1 IN+ (in), 4 VCC (power), 11 VEE (power)
part B pins: 4 VCC (power), 5 2 IN+ (in), 6 2 IN- (in), 7 2 OUT (out), 11 VEE (power)
part C pins: 4 VCC (power), 8 3 OUT (out), 9 3 IN- (in), 10 3 IN+ (in), 11 VEE (power)
part D pins: 4 VCC (power), 11 VEE (power), 12 4 IN+ (in), 13 4 IN- (in), 14 4 OUT (out)

## LMC660B_NSC
designator U?
Low Power Quad Operational Amplifier
footprint DIP-14
simulation model LMC660B_NSC (SUBCKT)
part A pins: 1 1 OUT (out), 2 1 IN- (in), 3 1 IN+ (in), 4 VCC (power), 11 VEE (power)
part B pins: 4 VCC (power), 5 2 IN+ (in), 6 2 IN- (in), 7 2 OUT (out), 11 VEE (power)
part C pins: 4 VCC (power), 8 3 OUT (out), 9 3 IN- (in), 10 3 IN+ (in), 11 VEE (power)
part D pins: 4 VCC (power), 11 VEE (power), 12 4 IN+ (in), 13 4 IN- (in), 14 4 OUT (out)

## LMC662_NSC
designator U?
Fast Settling Dual Operational Amplifier
footprint DIP-8
simulation model LMC662_NSC (SUBCKT)
part A pins: 1 OUT1 (out), 2 IN1- (in), 3 IN1+ (in), 4 V- (power), 8 V+ (power)
part B pins: 4 V- (power), 5 IN2+ (in), 6 IN2- (in), 7 OUT2 (out), 8 V+ (power)